# Altium integrated library Actel IGLOO nano.IntLib: 240 symbols (part 8 of 14)
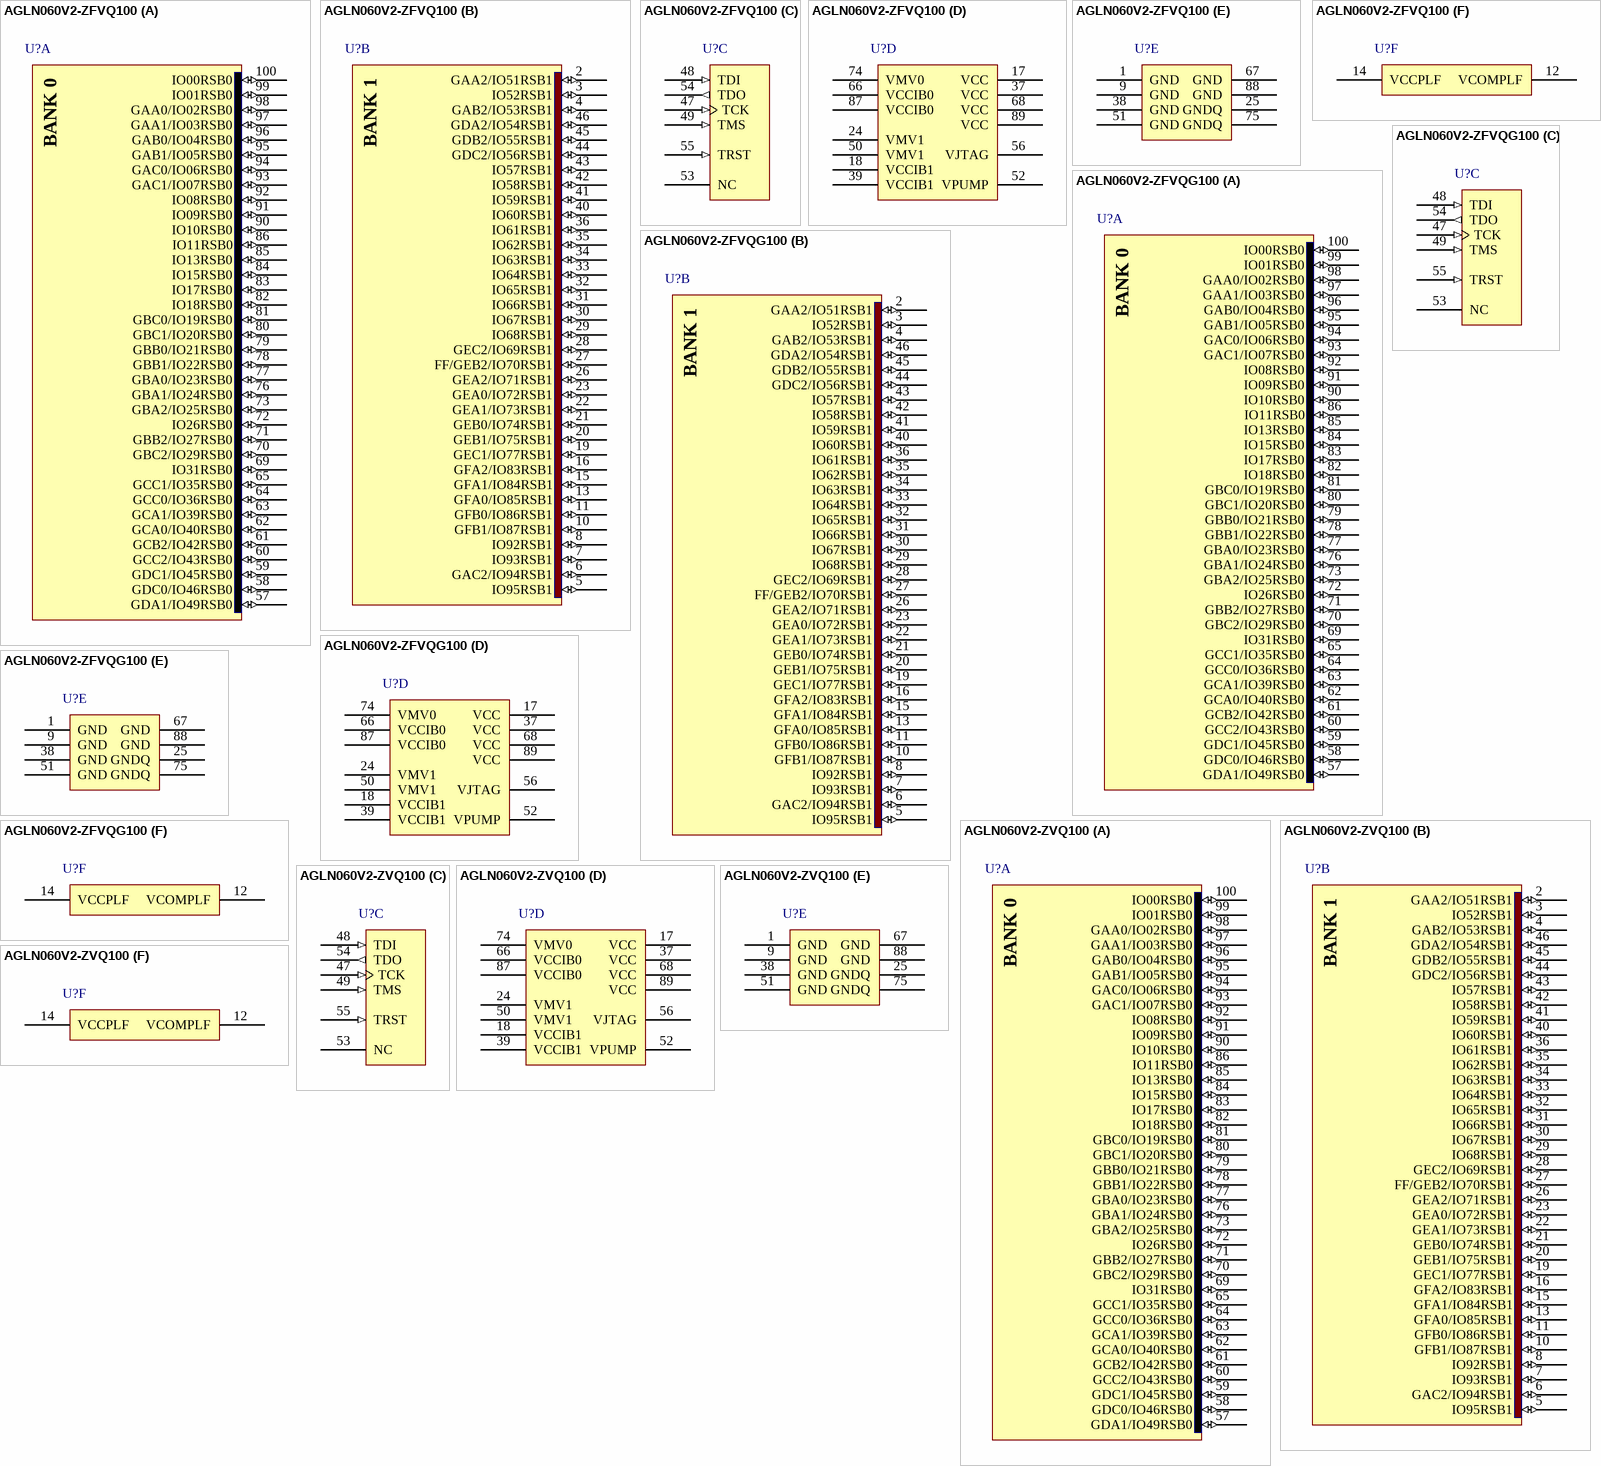
[diagram p70: symbols AGLN060V2-ZFVQ100 to AGLN060V2-ZVQ100]

## AGLN060V2-ZVQ100
designator U?
IGLOO nano Low-Power Flash 1.2 to 1.5V FPGA with Flash*Freeze, 71 User IOs, 60K System Gates, 1Kbit Flash ROM, Z feature grade, 100-Pin TQFP, Commercial Grade; Published: 29-May-2009; LatestRevisionDate: 26-Feb-2010; LatestRevisionNote: Updated to datasheet version 0.8 Jan-2010.; DatasheetVersion: v0.8, Jan-2010; PackageVersion: ver11.2, Nov-2009; PackageReference: VQ100; Publisher: Altium Limited; PackageDescription: 100-Pin Plastic Quad Flat Pack (VQ100); Code_JEDEC: MS-026-AED; ComponentLink1Description: IGLOO nano Datasheet; ComponentLink1URL: http://www.actel.com/documents/IGLOO_nano_DS.pdf; ComponentLink2Description: Package Mechanical Drawings; ComponentLink2URL: http://www.actel.com/documents/PckgMechDrwngs.pdf; ComponentLink3Description: IGLOO nano Documents; ComponentLink3URL: http://www.actel.com/products/igloonano/docs.aspx; ComponentLink4Description: Actel.com Home; ComponentLink4URL: http://www.actel.com/
footprint VQ100_N (Thin QFP, 100-Leads, Body 14x14mm, Pitch 0.5mm, IPC Medium Density)
footprint VQ100_L (Thin QFP, 100-Leads, Body 14x14mm, Pitch 0.5mm, IPC High Density)
footprint VQ100_M (Thin QFP, 100-Leads, Body 14x14mm, Pitch 0.5mm, IPC Low Density)
signal-integrity model AGLN060-VQ100 (IGLOO nano)
part A pins: 57 GDA1/IO49RSB0 (io), 58 GDC0/IO46RSB0 (io), 59 GDC1/IO45RSB0 (io), 60 GCC2/IO43RSB0 (io), 61 GCB2/IO42RSB0 (io), 62 GCA0/IO40RSB0 (io), 63 GCA1/IO39RSB0 (io), 64 GCC0/IO36RSB0 (io), 65 GCC1/IO35RSB0 (io), 69 IO31RSB0 (io), 70 GBC2/IO29RSB0 (io), 71 GBB2/IO27RSB0 (io), 72 IO26RSB0 (io), 73 GBA2/IO25RSB0 (io), 76 GBA1/IO24RSB0 (io), 77 GBA0/IO23RSB0 (io), 78 GBB1/IO22RSB0 (io), 79 GBB0/IO21RSB0 (io), 80 GBC1/IO20RSB0 (io), 81 GBC0/IO19RSB0 (io), 82 IO18RSB0 (io), 83 IO17RSB0 (io), 84 IO15RSB0 (io), 85 IO13RSB0 (io), 86 IO11RSB0 (io), 90 IO10RSB0 (io), 91 IO09RSB0 (io), 92 IO08RSB0 (io), 93 GAC1/IO07RSB0 (io), 94 GAC0/IO06RSB0 (io), 95 GAB1/IO05RSB0 (io), 96 GAB0/IO04RSB0 (io), 97 GAA1/IO03RSB0 (io), 98 GAA0/IO02RSB0 (io), 99 IO01RSB0 (io), 100 IO00RSB0 (io)
part B pins: 2 GAA2/IO51RSB1 (io), 3 IO52RSB1 (io), 4 GAB2/IO53RSB1 (io), 5 IO95RSB1 (io), 6 GAC2/IO94RSB1 (io), 7 IO93RSB1 (io), 8 IO92RSB1 (io), 10 GFB1/IO87RSB1 (io), 11 GFB0/IO86RSB1 (io), 13 GFA0/IO85RSB1 (io), 15 GFA1/IO84RSB1 (io), 16 GFA2/IO83RSB1 (io), 19 GEC1/IO77RSB1 (io), 20 GEB1/IO75RSB1 (io), 21 GEB0/IO74RSB1 (io), 22 GEA1/IO73RSB1 (io), 23 GEA0/IO72RSB1 (io), 26 GEA2/IO71RSB1 (io), 27 FF/GEB2/IO70RSB1 (io), 28 GEC2/IO69RSB1 (io), 29 IO68RSB1 (io), 30 IO67RSB1 (io), 31 IO66RSB1 (io), 32 IO65RSB1 (io), 33 IO64RSB1 (io), 34 IO63RSB1 (io), 35 IO62RSB1 (io), 36 IO61RSB1 (io), 40 IO60RSB1 (io), 41 IO59RSB1 (io), 42 IO58RSB1 (io), 43 IO57RSB1 (io), 44 GDC2/IO56RSB1 (io), 45 GDB2/IO55RSB1 (io), 46 GDA2/IO54RSB1 (io)
part C pins: 47 TCK (in), 48 TDI (in), 49 TMS (in), 53 NC, 54 TDO (out), 55 TRST (in)
part D pins: 17 VCC (power), 18 VCCIB1 (power), 24 VMV1 (power), 37 VCC (power), 39 VCCIB1 (power), 50 VMV1 (power), 52 VPUMP (power), 56 VJTAG (power), 66 VCCIB0 (power), 68 VCC (power), 74 VMV0 (power), 87 VCCIB0 (power), 89 VCC (power)
part E pins: 1 GND (power), 9 GND (power), 25 GNDQ (power), 38 GND (power), 51 GND (power), 67 GND (power), 75 GNDQ (power), 88 GND (power)
part F pins: 12 VCOMPLF (power), 14 VCCPLF (power)
part A text: BANK 0
part B text: BANK 1

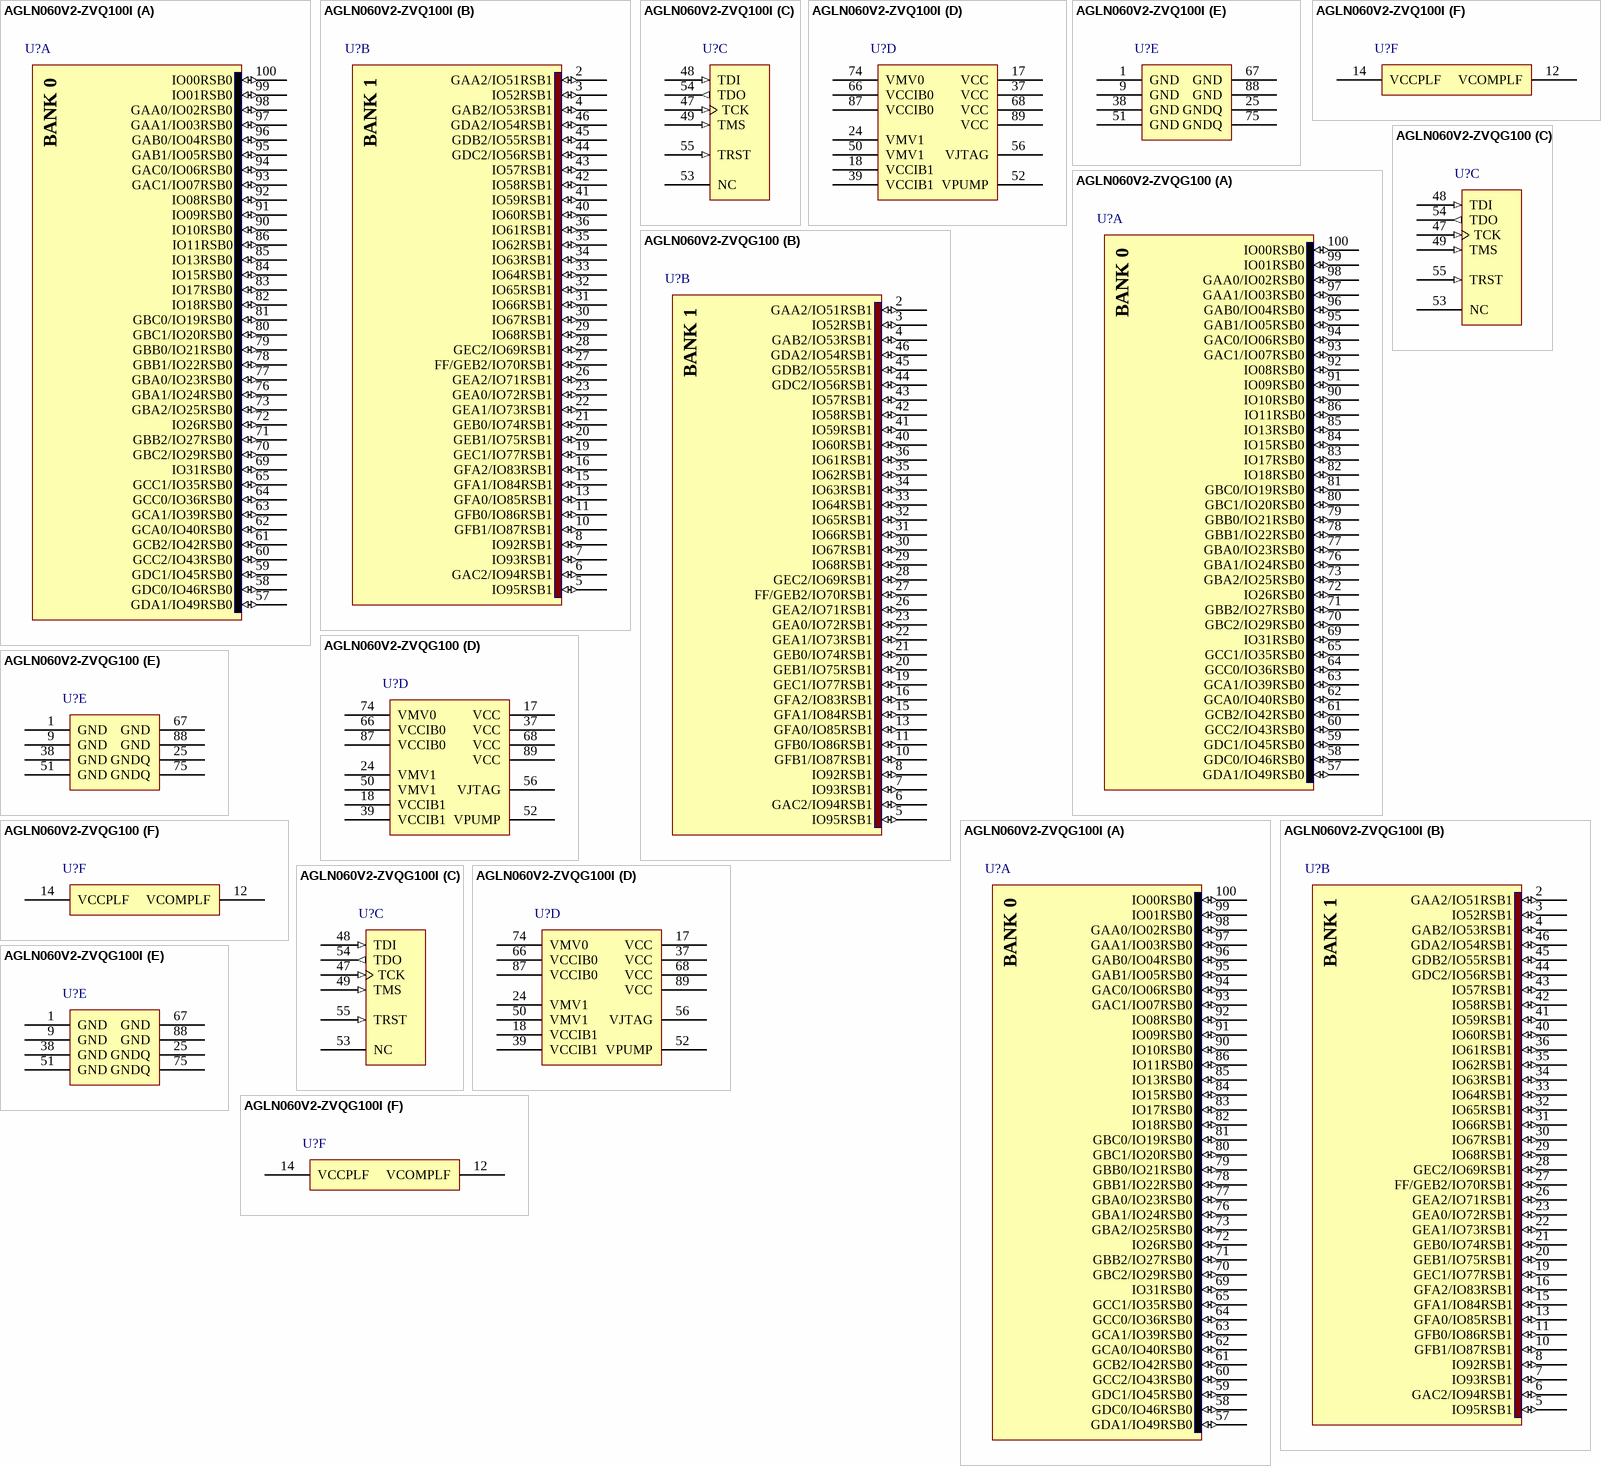
[diagram p32: symbols AGLN060V2-ZVQ100I to AGLN060V2-ZVQG100I]

## AGLN060V2-ZVQ100I
designator U?
IGLOO nano Low-Power Flash 1.2 to 1.5V FPGA with Flash*Freeze, 71 User IOs, 60K System Gates, 1Kbit Flash ROM, Z feature grade, 100-Pin TQFP, Industrial Grade; Published: 29-May-2009; LatestRevisionDate: 26-Feb-2010; LatestRevisionNote: Updated to datasheet version 0.8 Jan-2010.; DatasheetVersion: v0.8, Jan-2010; PackageVersion: ver11.2, Nov-2009; PackageReference: VQ100; Publisher: Altium Limited; PackageDescription: 100-Pin Plastic Quad Flat Pack (VQ100); Code_JEDEC: MS-026-AED; ComponentLink1Description: IGLOO nano Datasheet; ComponentLink1URL: http://www.actel.com/documents/IGLOO_nano_DS.pdf; ComponentLink2Description: Package Mechanical Drawings; ComponentLink2URL: http://www.actel.com/documents/PckgMechDrwngs.pdf; ComponentLink3Description: IGLOO nano Documents; ComponentLink3URL: http://www.actel.com/products/igloonano/docs.aspx; ComponentLink4Description: Actel.com Home; ComponentLink4URL: http://www.actel.com/
footprint VQ100_N (Thin QFP, 100-Leads, Body 14x14mm, Pitch 0.5mm, IPC Medium Density)
footprint VQ100_L (Thin QFP, 100-Leads, Body 14x14mm, Pitch 0.5mm, IPC High Density)
footprint VQ100_M (Thin QFP, 100-Leads, Body 14x14mm, Pitch 0.5mm, IPC Low Density)
signal-integrity model AGLN060-VQ100 (IGLOO nano)
part A pins: 57 GDA1/IO49RSB0 (io), 58 GDC0/IO46RSB0 (io), 59 GDC1/IO45RSB0 (io), 60 GCC2/IO43RSB0 (io), 61 GCB2/IO42RSB0 (io), 62 GCA0/IO40RSB0 (io), 63 GCA1/IO39RSB0 (io), 64 GCC0/IO36RSB0 (io), 65 GCC1/IO35RSB0 (io), 69 IO31RSB0 (io), 70 GBC2/IO29RSB0 (io), 71 GBB2/IO27RSB0 (io), 72 IO26RSB0 (io), 73 GBA2/IO25RSB0 (io), 76 GBA1/IO24RSB0 (io), 77 GBA0/IO23RSB0 (io), 78 GBB1/IO22RSB0 (io), 79 GBB0/IO21RSB0 (io), 80 GBC1/IO20RSB0 (io), 81 GBC0/IO19RSB0 (io), 82 IO18RSB0 (io), 83 IO17RSB0 (io), 84 IO15RSB0 (io), 85 IO13RSB0 (io), 86 IO11RSB0 (io), 90 IO10RSB0 (io), 91 IO09RSB0 (io), 92 IO08RSB0 (io), 93 GAC1/IO07RSB0 (io), 94 GAC0/IO06RSB0 (io), 95 GAB1/IO05RSB0 (io), 96 GAB0/IO04RSB0 (io), 97 GAA1/IO03RSB0 (io), 98 GAA0/IO02RSB0 (io), 99 IO01RSB0 (io), 100 IO00RSB0 (io)
part B pins: 2 GAA2/IO51RSB1 (io), 3 IO52RSB1 (io), 4 GAB2/IO53RSB1 (io), 5 IO95RSB1 (io), 6 GAC2/IO94RSB1 (io), 7 IO93RSB1 (io), 8 IO92RSB1 (io), 10 GFB1/IO87RSB1 (io), 11 GFB0/IO86RSB1 (io), 13 GFA0/IO85RSB1 (io), 15 GFA1/IO84RSB1 (io), 16 GFA2/IO83RSB1 (io), 19 GEC1/IO77RSB1 (io), 20 GEB1/IO75RSB1 (io), 21 GEB0/IO74RSB1 (io), 22 GEA1/IO73RSB1 (io), 23 GEA0/IO72RSB1 (io), 26 GEA2/IO71RSB1 (io), 27 FF/GEB2/IO70RSB1 (io), 28 GEC2/IO69RSB1 (io), 29 IO68RSB1 (io), 30 IO67RSB1 (io), 31 IO66RSB1 (io), 32 IO65RSB1 (io), 33 IO64RSB1 (io), 34 IO63RSB1 (io), 35 IO62RSB1 (io), 36 IO61RSB1 (io), 40 IO60RSB1 (io), 41 IO59RSB1 (io), 42 IO58RSB1 (io), 43 IO57RSB1 (io), 44 GDC2/IO56RSB1 (io), 45 GDB2/IO55RSB1 (io), 46 GDA2/IO54RSB1 (io)
part C pins: 47 TCK (in), 48 TDI (in), 49 TMS (in), 53 NC, 54 TDO (out), 55 TRST (in)
part D pins: 17 VCC (power), 18 VCCIB1 (power), 24 VMV1 (power), 37 VCC (power), 39 VCCIB1 (power), 50 VMV1 (power), 52 VPUMP (power), 56 VJTAG (power), 66 VCCIB0 (power), 68 VCC (power), 74 VMV0 (power), 87 VCCIB0 (power), 89 VCC (power)
part E pins: 1 GND (power), 9 GND (power), 25 GNDQ (power), 38 GND (power), 51 GND (power), 67 GND (power), 75 GNDQ (power), 88 GND (power)
part F pins: 12 VCOMPLF (power), 14 VCCPLF (power)
part A text: BANK 0
part B text: BANK 1

## AGLN060V2-ZVQG100
designator U?
IGLOO nano Low-Power Flash 1.2 to 1.5V FPGA with Flash*Freeze, 71 User IOs, 60K System Gates, 1Kbit Flash ROM, Z feature grade, 100-Pin TQFP, Commercial Grade, Pb-Free; Published: 29-May-2009; LatestRevisionDate: 26-Feb-2010; LatestRevisionNote: Updated to datasheet version 0.8 Jan-2010.; DatasheetVersion: v0.8, Jan-2010; PackageVersion: ver11.2, Nov-2009; PackageReference: VQ100; Publisher: Altium Limited; PackageDescription: 100-Pin Plastic Quad Flat Pack (VQ100); Code_JEDEC: MS-026-AED; ComponentLink1Description: IGLOO nano Datasheet; ComponentLink1URL: http://www.actel.com/documents/IGLOO_nano_DS.pdf; ComponentLink2Description: Package Mechanical Drawings; ComponentLink2URL: http://www.actel.com/documents/PckgMechDrwngs.pdf; ComponentLink3Description: IGLOO nano Documents; ComponentLink3URL: http://www.actel.com/products/igloonano/docs.aspx; ComponentLink4Description: Actel.com Home; ComponentLink4URL: http://www.actel.com/
footprint VQ100_N (Thin QFP, 100-Leads, Body 14x14mm, Pitch 0.5mm, IPC Medium Density)
footprint VQ100_L (Thin QFP, 100-Leads, Body 14x14mm, Pitch 0.5mm, IPC High Density)
footprint VQ100_M (Thin QFP, 100-Leads, Body 14x14mm, Pitch 0.5mm, IPC Low Density)
signal-integrity model AGLN060-VQ100 (IGLOO nano)
part A pins: 57 GDA1/IO49RSB0 (io), 58 GDC0/IO46RSB0 (io), 59 GDC1/IO45RSB0 (io), 60 GCC2/IO43RSB0 (io), 61 GCB2/IO42RSB0 (io), 62 GCA0/IO40RSB0 (io), 63 GCA1/IO39RSB0 (io), 64 GCC0/IO36RSB0 (io), 65 GCC1/IO35RSB0 (io), 69 IO31RSB0 (io), 70 GBC2/IO29RSB0 (io), 71 GBB2/IO27RSB0 (io), 72 IO26RSB0 (io), 73 GBA2/IO25RSB0 (io), 76 GBA1/IO24RSB0 (io), 77 GBA0/IO23RSB0 (io), 78 GBB1/IO22RSB0 (io), 79 GBB0/IO21RSB0 (io), 80 GBC1/IO20RSB0 (io), 81 GBC0/IO19RSB0 (io), 82 IO18RSB0 (io), 83 IO17RSB0 (io), 84 IO15RSB0 (io), 85 IO13RSB0 (io), 86 IO11RSB0 (io), 90 IO10RSB0 (io), 91 IO09RSB0 (io), 92 IO08RSB0 (io), 93 GAC1/IO07RSB0 (io), 94 GAC0/IO06RSB0 (io), 95 GAB1/IO05RSB0 (io), 96 GAB0/IO04RSB0 (io), 97 GAA1/IO03RSB0 (io), 98 GAA0/IO02RSB0 (io), 99 IO01RSB0 (io), 100 IO00RSB0 (io)
part B pins: 2 GAA2/IO51RSB1 (io), 3 IO52RSB1 (io), 4 GAB2/IO53RSB1 (io), 5 IO95RSB1 (io), 6 GAC2/IO94RSB1 (io), 7 IO93RSB1 (io), 8 IO92RSB1 (io), 10 GFB1/IO87RSB1 (io), 11 GFB0/IO86RSB1 (io), 13 GFA0/IO85RSB1 (io), 15 GFA1/IO84RSB1 (io), 16 GFA2/IO83RSB1 (io), 19 GEC1/IO77RSB1 (io), 20 GEB1/IO75RSB1 (io), 21 GEB0/IO74RSB1 (io), 22 GEA1/IO73RSB1 (io), 23 GEA0/IO72RSB1 (io), 26 GEA2/IO71RSB1 (io), 27 FF/GEB2/IO70RSB1 (io), 28 GEC2/IO69RSB1 (io), 29 IO68RSB1 (io), 30 IO67RSB1 (io), 31 IO66RSB1 (io), 32 IO65RSB1 (io), 33 IO64RSB1 (io), 34 IO63RSB1 (io), 35 IO62RSB1 (io), 36 IO61RSB1 (io), 40 IO60RSB1 (io), 41 IO59RSB1 (io), 42 IO58RSB1 (io), 43 IO57RSB1 (io), 44 GDC2/IO56RSB1 (io), 45 GDB2/IO55RSB1 (io), 46 GDA2/IO54RSB1 (io)
part C pins: 47 TCK (in), 48 TDI (in), 49 TMS (in), 53 NC, 54 TDO (out), 55 TRST (in)
part D pins: 17 VCC (power), 18 VCCIB1 (power), 24 VMV1 (power), 37 VCC (power), 39 VCCIB1 (power), 50 VMV1 (power), 52 VPUMP (power), 56 VJTAG (power), 66 VCCIB0 (power), 68 VCC (power), 74 VMV0 (power), 87 VCCIB0 (power), 89 VCC (power)
part E pins: 1 GND (power), 9 GND (power), 25 GNDQ (power), 38 GND (power), 51 GND (power), 67 GND (power), 75 GNDQ (power), 88 GND (power)
part F pins: 12 VCOMPLF (power), 14 VCCPLF (power)
part A text: BANK 0
part B text: BANK 1

## AGLN060V2-ZVQG100I
designator U?
IGLOO nano Low-Power Flash 1.2 to 1.5V FPGA with Flash*Freeze, 71 User IOs, 60K System Gates, 1Kbit Flash ROM, Z feature grade, 100-Pin TQFP, Industrial Grade, Pb-Free; Published: 29-May-2009; LatestRevisionDate: 26-Feb-2010; LatestRevisionNote: Updated to datasheet version 0.8 Jan-2010.; DatasheetVersion: v0.8, Jan-2010; PackageVersion: ver11.2, Nov-2009; PackageReference: VQ100; Publisher: Altium Limited; PackageDescription: 100-Pin Plastic Quad Flat Pack (VQ100); Code_JEDEC: MS-026-AED; ComponentLink1Description: IGLOO nano Datasheet; ComponentLink1URL: http://www.actel.com/documents/IGLOO_nano_DS.pdf; ComponentLink2Description: Package Mechanical Drawings; ComponentLink2URL: http://www.actel.com/documents/PckgMechDrwngs.pdf; ComponentLink3Description: IGLOO nano Documents; ComponentLink3URL: http://www.actel.com/products/igloonano/docs.aspx; ComponentLink4Description: Actel.com Home; ComponentLink4URL: http://www.actel.com/
footprint VQ100_N (Thin QFP, 100-Leads, Body 14x14mm, Pitch 0.5mm, IPC Medium Density)
footprint VQ100_L (Thin QFP, 100-Leads, Body 14x14mm, Pitch 0.5mm, IPC High Density)
footprint VQ100_M (Thin QFP, 100-Leads, Body 14x14mm, Pitch 0.5mm, IPC Low Density)
signal-integrity model AGLN060-VQ100 (IGLOO nano)
part A pins: 57 GDA1/IO49RSB0 (io), 58 GDC0/IO46RSB0 (io), 59 GDC1/IO45RSB0 (io), 60 GCC2/IO43RSB0 (io), 61 GCB2/IO42RSB0 (io), 62 GCA0/IO40RSB0 (io), 63 GCA1/IO39RSB0 (io), 64 GCC0/IO36RSB0 (io), 65 GCC1/IO35RSB0 (io), 69 IO31RSB0 (io), 70 GBC2/IO29RSB0 (io), 71 GBB2/IO27RSB0 (io), 72 IO26RSB0 (io), 73 GBA2/IO25RSB0 (io), 76 GBA1/IO24RSB0 (io), 77 GBA0/IO23RSB0 (io), 78 GBB1/IO22RSB0 (io), 79 GBB0/IO21RSB0 (io), 80 GBC1/IO20RSB0 (io), 81 GBC0/IO19RSB0 (io), 82 IO18RSB0 (io), 83 IO17RSB0 (io), 84 IO15RSB0 (io), 85 IO13RSB0 (io), 86 IO11RSB0 (io), 90 IO10RSB0 (io), 91 IO09RSB0 (io), 92 IO08RSB0 (io), 93 GAC1/IO07RSB0 (io), 94 GAC0/IO06RSB0 (io), 95 GAB1/IO05RSB0 (io), 96 GAB0/IO04RSB0 (io), 97 GAA1/IO03RSB0 (io), 98 GAA0/IO02RSB0 (io), 99 IO01RSB0 (io), 100 IO00RSB0 (io)
part B pins: 2 GAA2/IO51RSB1 (io), 3 IO52RSB1 (io), 4 GAB2/IO53RSB1 (io), 5 IO95RSB1 (io), 6 GAC2/IO94RSB1 (io), 7 IO93RSB1 (io), 8 IO92RSB1 (io), 10 GFB1/IO87RSB1 (io), 11 GFB0/IO86RSB1 (io), 13 GFA0/IO85RSB1 (io), 15 GFA1/IO84RSB1 (io), 16 GFA2/IO83RSB1 (io), 19 GEC1/IO77RSB1 (io), 20 GEB1/IO75RSB1 (io), 21 GEB0/IO74RSB1 (io), 22 GEA1/IO73RSB1 (io), 23 GEA0/IO72RSB1 (io), 26 GEA2/IO71RSB1 (io), 27 FF/GEB2/IO70RSB1 (io), 28 GEC2/IO69RSB1 (io), 29 IO68RSB1 (io), 30 IO67RSB1 (io), 31 IO66RSB1 (io), 32 IO65RSB1 (io), 33 IO64RSB1 (io), 34 IO63RSB1 (io), 35 IO62RSB1 (io), 36 IO61RSB1 (io), 40 IO60RSB1 (io), 41 IO59RSB1 (io), 42 IO58RSB1 (io), 43 IO57RSB1 (io), 44 GDC2/IO56RSB1 (io), 45 GDB2/IO55RSB1 (io), 46 GDA2/IO54RSB1 (io)
part C pins: 47 TCK (in), 48 TDI (in), 49 TMS (in), 53 NC, 54 TDO (out), 55 TRST (in)
part D pins: 17 VCC (power), 18 VCCIB1 (power), 24 VMV1 (power), 37 VCC (power), 39 VCCIB1 (power), 50 VMV1 (power), 52 VPUMP (power), 56 VJTAG (power), 66 VCCIB0 (power), 68 VCC (power), 74 VMV0 (power), 87 VCCIB0 (power), 89 VCC (power)
part E pins: 1 GND (power), 9 GND (power), 25 GNDQ (power), 38 GND (power), 51 GND (power), 67 GND (power), 75 GNDQ (power), 88 GND (power)
part F pins: 12 VCOMPLF (power), 14 VCCPLF (power)
part A text: BANK 0
part B text: BANK 1

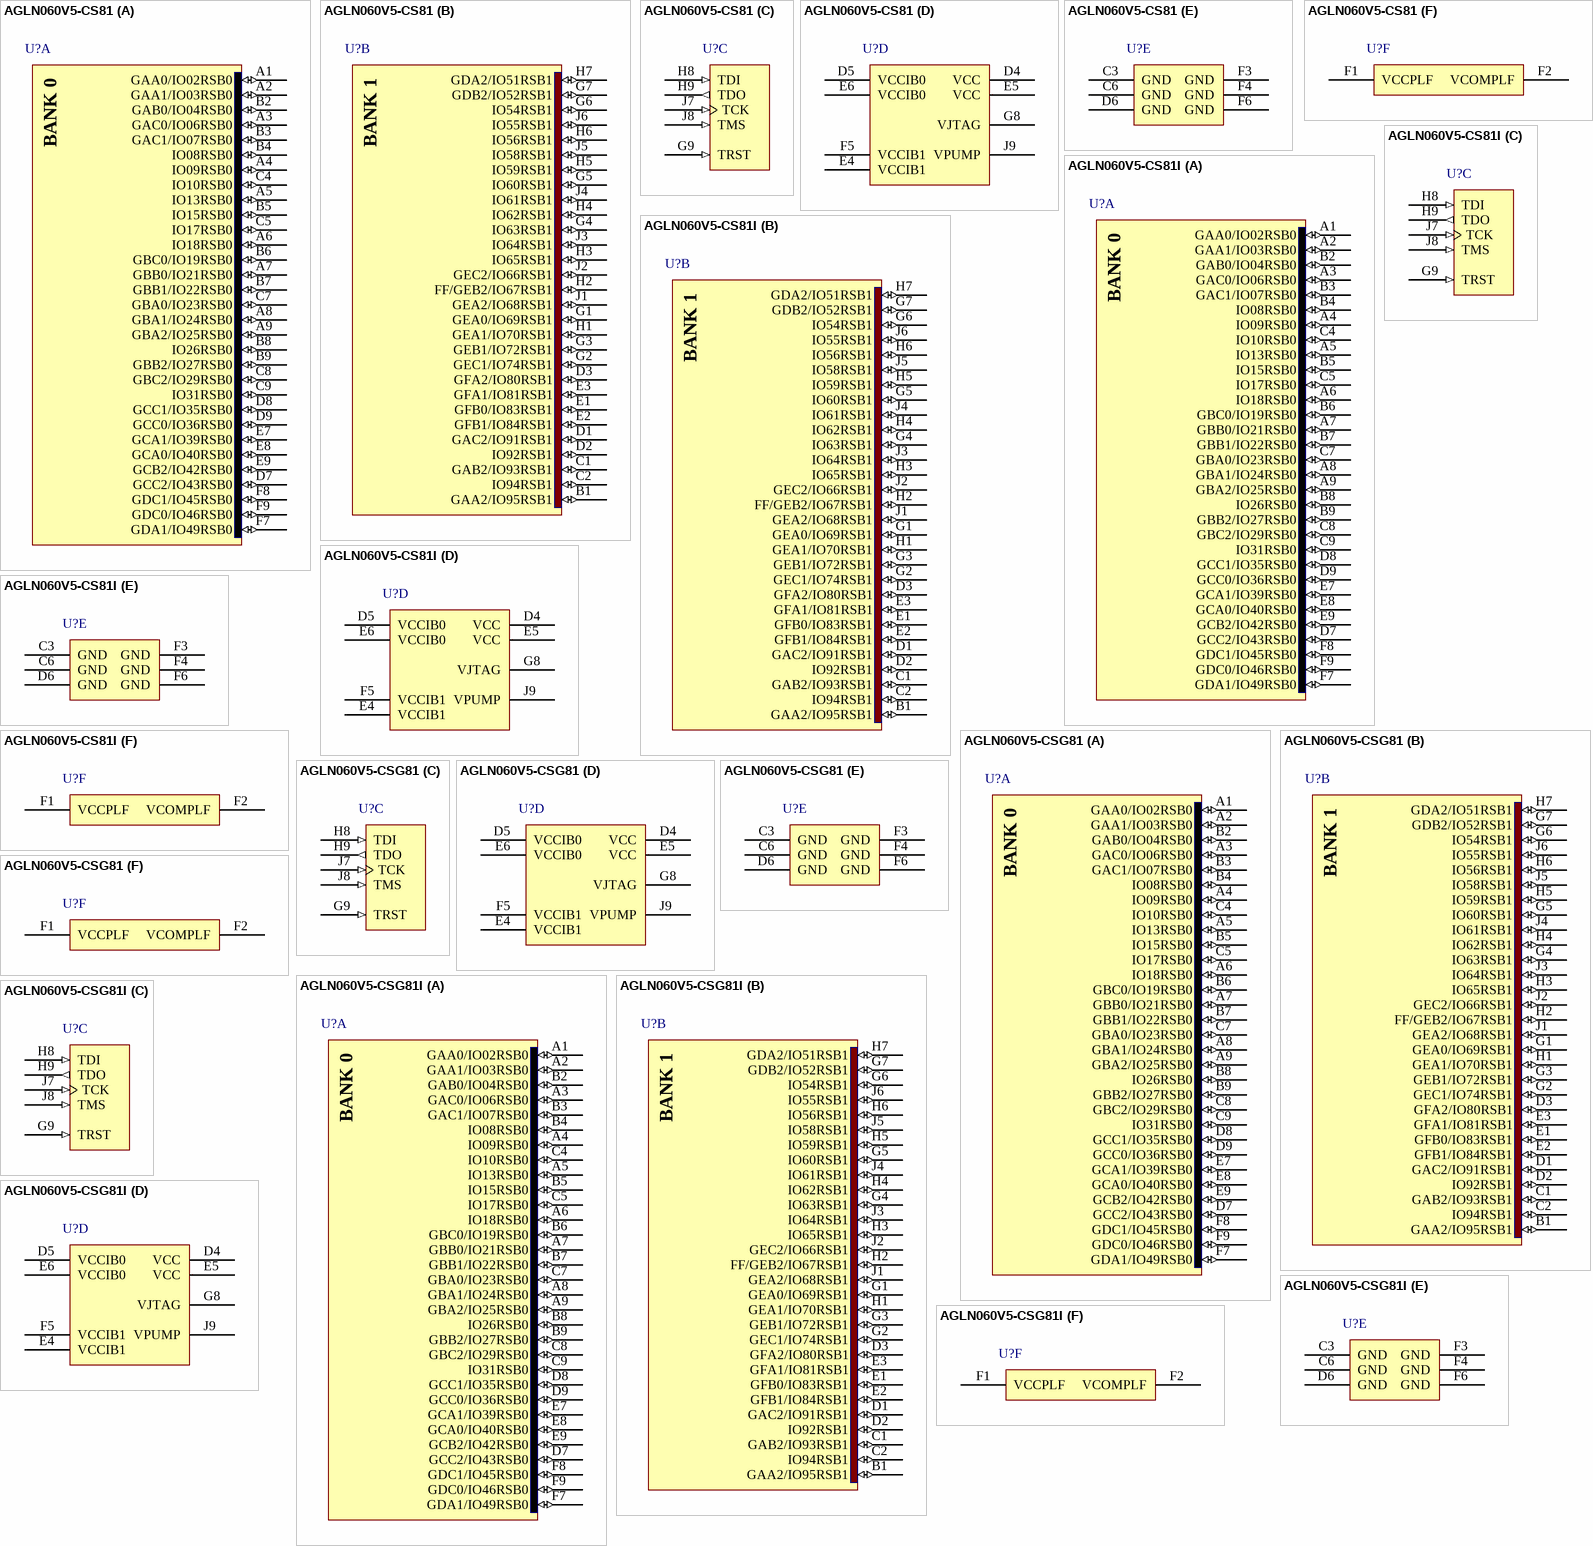
[diagram p33: symbols AGLN060V5-CS81 to AGLN060V5-CSG81I]

## AGLN060V5-CS81
designator U?
IGLOO nano Low-Power Flash 1.5V FPGA with Flash*Freeze, 60 User IOs, 60K System Gates, 1Kbit Flash ROM, 81-Pin CSP, Commercial Grade; Published: 26-Feb-2010; DatasheetVersion: v0.8, Jan-2010; PackageVersion: ver11.2, Nov-2009; PackageReference: CS81; Publisher: Altium Limited; PackageDescription: 81-Ball Chip Scale Ball Grid Array 0.5 mm Pitch (CS81); Code_JEDEC: MO-195-AB; ComponentLink1Description: IGLOO nano Datasheet; ComponentLink1URL: http://www.actel.com/documents/IGLOO_nano_DS.pdf; ComponentLink2Description: Package Mechanical Drawings; ComponentLink2URL: http://www.actel.com/documents/PckgMechDrwngs.pdf; ComponentLink3Description: IGLOO nano Documents; ComponentLink3URL: http://www.actel.com/products/igloonano/docs.aspx; ComponentLink4Description: Actel.com Home; ComponentLink4URL: http://www.actel.com/
footprint CS81 (BGA, 81-Leads, Body 5x5mm, Pitch 0.5mm)
signal-integrity model AGLN060-CS81 (IGLOO nano)
part A pins: A1 GAA0/IO02RSB0 (io), A2 GAA1/IO03RSB0 (io), A3 GAC0/IO06RSB0 (io), A4 IO09RSB0 (io), A5 IO13RSB0 (io), A6 IO18RSB0 (io), A7 GBB0/IO21RSB0 (io), A8 GBA1/IO24RSB0 (io), A9 GBA2/IO25RSB0 (io), B2 GAB0/IO04RSB0 (io), B3 GAC1/IO07RSB0 (io), B4 IO08RSB0 (io), B5 IO15RSB0 (io), B6 GBC0/IO19RSB0 (io), B7 GBB1/IO22RSB0 (io), B8 IO26RSB0 (io), B9 GBB2/IO27RSB0 (io), C4 IO10RSB0 (io), C5 IO17RSB0 (io), C7 GBA0/IO23RSB0 (io), C8 GBC2/IO29RSB0 (io), C9 IO31RSB0 (io), D7 GCC2/IO43RSB0 (io), D8 GCC1/IO35RSB0 (io), D9 GCC0/IO36RSB0 (io), E7 GCA1/IO39RSB0 (io), E8 GCA0/IO40RSB0 (io), E9 GCB2/IO42RSB0 (io), F7 GDA1/IO49RSB0 (io), F8 GDC1/IO45RSB0 (io), F9 GDC0/IO46RSB0 (io)
part B pins: B1 GAA2/IO95RSB1 (io), C1 GAB2/IO93RSB1 (io), C2 IO94RSB1 (io), D1 GAC2/IO91RSB1 (io), D2 IO92RSB1 (io), D3 GFA2/IO80RSB1 (io), E1 GFB0/IO83RSB1 (io), E2 GFB1/IO84RSB1 (io), E3 GFA1/IO81RSB1 (io), G1 GEA0/IO69RSB1 (io), G2 GEC1/IO74RSB1 (io), G3 GEB1/IO72RSB1 (io), G4 IO63RSB1 (io), G5 IO60RSB1 (io), G6 IO54RSB1 (io), G7 GDB2/IO52RSB1 (io), H1 GEA1/IO70RSB1 (io), H2 FF/GEB2/IO67RSB1 (io), H3 IO65RSB1 (io), H4 IO62RSB1 (io), H5 IO59RSB1 (io), H6 IO56RSB1 (io), H7 GDA2/IO51RSB1 (io), J1 GEA2/IO68RSB1 (io), J2 GEC2/IO66RSB1 (io), J3 IO64RSB1 (io), J4 IO61RSB1 (io), J5 IO58RSB1 (io), J6 IO55RSB1 (io)
part C pins: G9 TRST (in), H8 TDI (in), H9 TDO (out), J7 TCK (in), J8 TMS (in)
part D pins: D4 VCC (power), D5 VCCIB0 (power), E4 VCCIB1 (power), E5 VCC (power), E6 VCCIB0 (power), F5 VCCIB1 (power), G8 VJTAG (power), J9 VPUMP (power)
part E pins: C3 GND (power), C6 GND (power), D6 GND (power), F3 GND (power), F4 GND (power), F6 GND (power)
part F pins: F1 VCCPLF (power), F2 VCOMPLF (power)
part A text: BANK 0
part B text: BANK 1

## AGLN060V5-CS81I
designator U?
IGLOO nano Low-Power Flash 1.5V FPGA with Flash*Freeze, 60 User IOs, 60K System Gates, 1Kbit Flash ROM, 81-Pin CSP, Industrial Grade; Published: 26-Feb-2010; DatasheetVersion: v0.8, Jan-2010; PackageVersion: ver11.2, Nov-2009; PackageReference: CS81; Publisher: Altium Limited; PackageDescription: 81-Ball Chip Scale Ball Grid Array 0.5 mm Pitch (CS81); Code_JEDEC: MO-195-AB; ComponentLink1Description: IGLOO nano Datasheet; ComponentLink1URL: http://www.actel.com/documents/IGLOO_nano_DS.pdf; ComponentLink2Description: Package Mechanical Drawings; ComponentLink2URL: http://www.actel.com/documents/PckgMechDrwngs.pdf; ComponentLink3Description: IGLOO nano Documents; ComponentLink3URL: http://www.actel.com/products/igloonano/docs.aspx; ComponentLink4Description: Actel.com Home; ComponentLink4URL: http://www.actel.com/
footprint CS81 (BGA, 81-Leads, Body 5x5mm, Pitch 0.5mm)
signal-integrity model AGLN060-CS81 (IGLOO nano)
part A pins: A1 GAA0/IO02RSB0 (io), A2 GAA1/IO03RSB0 (io), A3 GAC0/IO06RSB0 (io), A4 IO09RSB0 (io), A5 IO13RSB0 (io), A6 IO18RSB0 (io), A7 GBB0/IO21RSB0 (io), A8 GBA1/IO24RSB0 (io), A9 GBA2/IO25RSB0 (io), B2 GAB0/IO04RSB0 (io), B3 GAC1/IO07RSB0 (io), B4 IO08RSB0 (io), B5 IO15RSB0 (io), B6 GBC0/IO19RSB0 (io), B7 GBB1/IO22RSB0 (io), B8 IO26RSB0 (io), B9 GBB2/IO27RSB0 (io), C4 IO10RSB0 (io), C5 IO17RSB0 (io), C7 GBA0/IO23RSB0 (io), C8 GBC2/IO29RSB0 (io), C9 IO31RSB0 (io), D7 GCC2/IO43RSB0 (io), D8 GCC1/IO35RSB0 (io), D9 GCC0/IO36RSB0 (io), E7 GCA1/IO39RSB0 (io), E8 GCA0/IO40RSB0 (io), E9 GCB2/IO42RSB0 (io), F7 GDA1/IO49RSB0 (io), F8 GDC1/IO45RSB0 (io), F9 GDC0/IO46RSB0 (io)
part B pins: B1 GAA2/IO95RSB1 (io), C1 GAB2/IO93RSB1 (io), C2 IO94RSB1 (io), D1 GAC2/IO91RSB1 (io), D2 IO92RSB1 (io), D3 GFA2/IO80RSB1 (io), E1 GFB0/IO83RSB1 (io), E2 GFB1/IO84RSB1 (io), E3 GFA1/IO81RSB1 (io), G1 GEA0/IO69RSB1 (io), G2 GEC1/IO74RSB1 (io), G3 GEB1/IO72RSB1 (io), G4 IO63RSB1 (io), G5 IO60RSB1 (io), G6 IO54RSB1 (io), G7 GDB2/IO52RSB1 (io), H1 GEA1/IO70RSB1 (io), H2 FF/GEB2/IO67RSB1 (io), H3 IO65RSB1 (io), H4 IO62RSB1 (io), H5 IO59RSB1 (io), H6 IO56RSB1 (io), H7 GDA2/IO51RSB1 (io), J1 GEA2/IO68RSB1 (io), J2 GEC2/IO66RSB1 (io), J3 IO64RSB1 (io), J4 IO61RSB1 (io), J5 IO58RSB1 (io), J6 IO55RSB1 (io)
part C pins: G9 TRST (in), H8 TDI (in), H9 TDO (out), J7 TCK (in), J8 TMS (in)
part D pins: D4 VCC (power), D5 VCCIB0 (power), E4 VCCIB1 (power), E5 VCC (power), E6 VCCIB0 (power), F5 VCCIB1 (power), G8 VJTAG (power), J9 VPUMP (power)
part E pins: C3 GND (power), C6 GND (power), D6 GND (power), F3 GND (power), F4 GND (power), F6 GND (power)
part F pins: F1 VCCPLF (power), F2 VCOMPLF (power)
part A text: BANK 0
part B text: BANK 1

## AGLN060V5-CSG81
designator U?
IGLOO nano Low-Power Flash 1.5V FPGA with Flash*Freeze, 60 User IOs, 60K System Gates, 1Kbit Flash ROM, 81-Pin CSP, Commercial Grade, Pb-Free; Published: 26-Feb-2010; DatasheetVersion: v0.8, Jan-2010; PackageVersion: ver11.2, Nov-2009; PackageReference: CS81; Publisher: Altium Limited; PackageDescription: 81-Ball Chip Scale Ball Grid Array 0.5 mm Pitch (CS81); Code_JEDEC: MO-195-AB; ComponentLink1Description: IGLOO nano Datasheet; ComponentLink1URL: http://www.actel.com/documents/IGLOO_nano_DS.pdf; ComponentLink2Description: Package Mechanical Drawings; ComponentLink2URL: http://www.actel.com/documents/PckgMechDrwngs.pdf; ComponentLink3Description: IGLOO nano Documents; ComponentLink3URL: http://www.actel.com/products/igloonano/docs.aspx; ComponentLink4Description: Actel.com Home; ComponentLink4URL: http://www.actel.com/
footprint CS81 (BGA, 81-Leads, Body 5x5mm, Pitch 0.5mm)
signal-integrity model AGLN060-CS81 (IGLOO nano)
part A pins: A1 GAA0/IO02RSB0 (io), A2 GAA1/IO03RSB0 (io), A3 GAC0/IO06RSB0 (io), A4 IO09RSB0 (io), A5 IO13RSB0 (io), A6 IO18RSB0 (io), A7 GBB0/IO21RSB0 (io), A8 GBA1/IO24RSB0 (io), A9 GBA2/IO25RSB0 (io), B2 GAB0/IO04RSB0 (io), B3 GAC1/IO07RSB0 (io), B4 IO08RSB0 (io), B5 IO15RSB0 (io), B6 GBC0/IO19RSB0 (io), B7 GBB1/IO22RSB0 (io), B8 IO26RSB0 (io), B9 GBB2/IO27RSB0 (io), C4 IO10RSB0 (io), C5 IO17RSB0 (io), C7 GBA0/IO23RSB0 (io), C8 GBC2/IO29RSB0 (io), C9 IO31RSB0 (io), D7 GCC2/IO43RSB0 (io), D8 GCC1/IO35RSB0 (io), D9 GCC0/IO36RSB0 (io), E7 GCA1/IO39RSB0 (io), E8 GCA0/IO40RSB0 (io), E9 GCB2/IO42RSB0 (io), F7 GDA1/IO49RSB0 (io), F8 GDC1/IO45RSB0 (io), F9 GDC0/IO46RSB0 (io)
part B pins: B1 GAA2/IO95RSB1 (io), C1 GAB2/IO93RSB1 (io), C2 IO94RSB1 (io), D1 GAC2/IO91RSB1 (io), D2 IO92RSB1 (io), D3 GFA2/IO80RSB1 (io), E1 GFB0/IO83RSB1 (io), E2 GFB1/IO84RSB1 (io), E3 GFA1/IO81RSB1 (io), G1 GEA0/IO69RSB1 (io), G2 GEC1/IO74RSB1 (io), G3 GEB1/IO72RSB1 (io), G4 IO63RSB1 (io), G5 IO60RSB1 (io), G6 IO54RSB1 (io), G7 GDB2/IO52RSB1 (io), H1 GEA1/IO70RSB1 (io), H2 FF/GEB2/IO67RSB1 (io), H3 IO65RSB1 (io), H4 IO62RSB1 (io), H5 IO59RSB1 (io), H6 IO56RSB1 (io), H7 GDA2/IO51RSB1 (io), J1 GEA2/IO68RSB1 (io), J2 GEC2/IO66RSB1 (io), J3 IO64RSB1 (io), J4 IO61RSB1 (io), J5 IO58RSB1 (io), J6 IO55RSB1 (io)
part C pins: G9 TRST (in), H8 TDI (in), H9 TDO (out), J7 TCK (in), J8 TMS (in)
part D pins: D4 VCC (power), D5 VCCIB0 (power), E4 VCCIB1 (power), E5 VCC (power), E6 VCCIB0 (power), F5 VCCIB1 (power), G8 VJTAG (power), J9 VPUMP (power)
part E pins: C3 GND (power), C6 GND (power), D6 GND (power), F3 GND (power), F4 GND (power), F6 GND (power)
part F pins: F1 VCCPLF (power), F2 VCOMPLF (power)
part A text: BANK 0
part B text: BANK 1

## AGLN060V5-CSG81I
designator U?
IGLOO nano Low-Power Flash 1.5V FPGA with Flash*Freeze, 60 User IOs, 60K System Gates, 1Kbit Flash ROM, 81-Pin CSP, Industrial Grade, Pb-Free; Published: 26-Feb-2010; DatasheetVersion: v0.8, Jan-2010; PackageVersion: ver11.2, Nov-2009; PackageReference: CS81; Publisher: Altium Limited; PackageDescription: 81-Ball Chip Scale Ball Grid Array 0.5 mm Pitch (CS81); Code_JEDEC: MO-195-AB; ComponentLink1Description: IGLOO nano Datasheet; ComponentLink1URL: http://www.actel.com/documents/IGLOO_nano_DS.pdf; ComponentLink2Description: Package Mechanical Drawings; ComponentLink2URL: http://www.actel.com/documents/PckgMechDrwngs.pdf; ComponentLink3Description: IGLOO nano Documents; ComponentLink3URL: http://www.actel.com/products/igloonano/docs.aspx; ComponentLink4Description: Actel.com Home; ComponentLink4URL: http://www.actel.com/
footprint CS81 (BGA, 81-Leads, Body 5x5mm, Pitch 0.5mm)
signal-integrity model AGLN060-CS81 (IGLOO nano)
part A pins: A1 GAA0/IO02RSB0 (io), A2 GAA1/IO03RSB0 (io), A3 GAC0/IO06RSB0 (io), A4 IO09RSB0 (io), A5 IO13RSB0 (io), A6 IO18RSB0 (io), A7 GBB0/IO21RSB0 (io), A8 GBA1/IO24RSB0 (io), A9 GBA2/IO25RSB0 (io), B2 GAB0/IO04RSB0 (io), B3 GAC1/IO07RSB0 (io), B4 IO08RSB0 (io), B5 IO15RSB0 (io), B6 GBC0/IO19RSB0 (io), B7 GBB1/IO22RSB0 (io), B8 IO26RSB0 (io), B9 GBB2/IO27RSB0 (io), C4 IO10RSB0 (io), C5 IO17RSB0 (io), C7 GBA0/IO23RSB0 (io), C8 GBC2/IO29RSB0 (io), C9 IO31RSB0 (io), D7 GCC2/IO43RSB0 (io), D8 GCC1/IO35RSB0 (io), D9 GCC0/IO36RSB0 (io), E7 GCA1/IO39RSB0 (io), E8 GCA0/IO40RSB0 (io), E9 GCB2/IO42RSB0 (io), F7 GDA1/IO49RSB0 (io), F8 GDC1/IO45RSB0 (io), F9 GDC0/IO46RSB0 (io)
part B pins: B1 GAA2/IO95RSB1 (io), C1 GAB2/IO93RSB1 (io), C2 IO94RSB1 (io), D1 GAC2/IO91RSB1 (io), D2 IO92RSB1 (io), D3 GFA2/IO80RSB1 (io), E1 GFB0/IO83RSB1 (io), E2 GFB1/IO84RSB1 (io), E3 GFA1/IO81RSB1 (io), G1 GEA0/IO69RSB1 (io), G2 GEC1/IO74RSB1 (io), G3 GEB1/IO72RSB1 (io), G4 IO63RSB1 (io), G5 IO60RSB1 (io), G6 IO54RSB1 (io), G7 GDB2/IO52RSB1 (io), H1 GEA1/IO70RSB1 (io), H2 FF/GEB2/IO67RSB1 (io), H3 IO65RSB1 (io), H4 IO62RSB1 (io), H5 IO59RSB1 (io), H6 IO56RSB1 (io), H7 GDA2/IO51RSB1 (io), J1 GEA2/IO68RSB1 (io), J2 GEC2/IO66RSB1 (io), J3 IO64RSB1 (io), J4 IO61RSB1 (io), J5 IO58RSB1 (io), J6 IO55RSB1 (io)
part C pins: G9 TRST (in), H8 TDI (in), H9 TDO (out), J7 TCK (in), J8 TMS (in)
part D pins: D4 VCC (power), D5 VCCIB0 (power), E4 VCCIB1 (power), E5 VCC (power), E6 VCCIB0 (power), F5 VCCIB1 (power), G8 VJTAG (power), J9 VPUMP (power)
part E pins: C3 GND (power), C6 GND (power), D6 GND (power), F3 GND (power), F4 GND (power), F6 GND (power)
part F pins: F1 VCCPLF (power), F2 VCOMPLF (power)
part A text: BANK 0
part B text: BANK 1

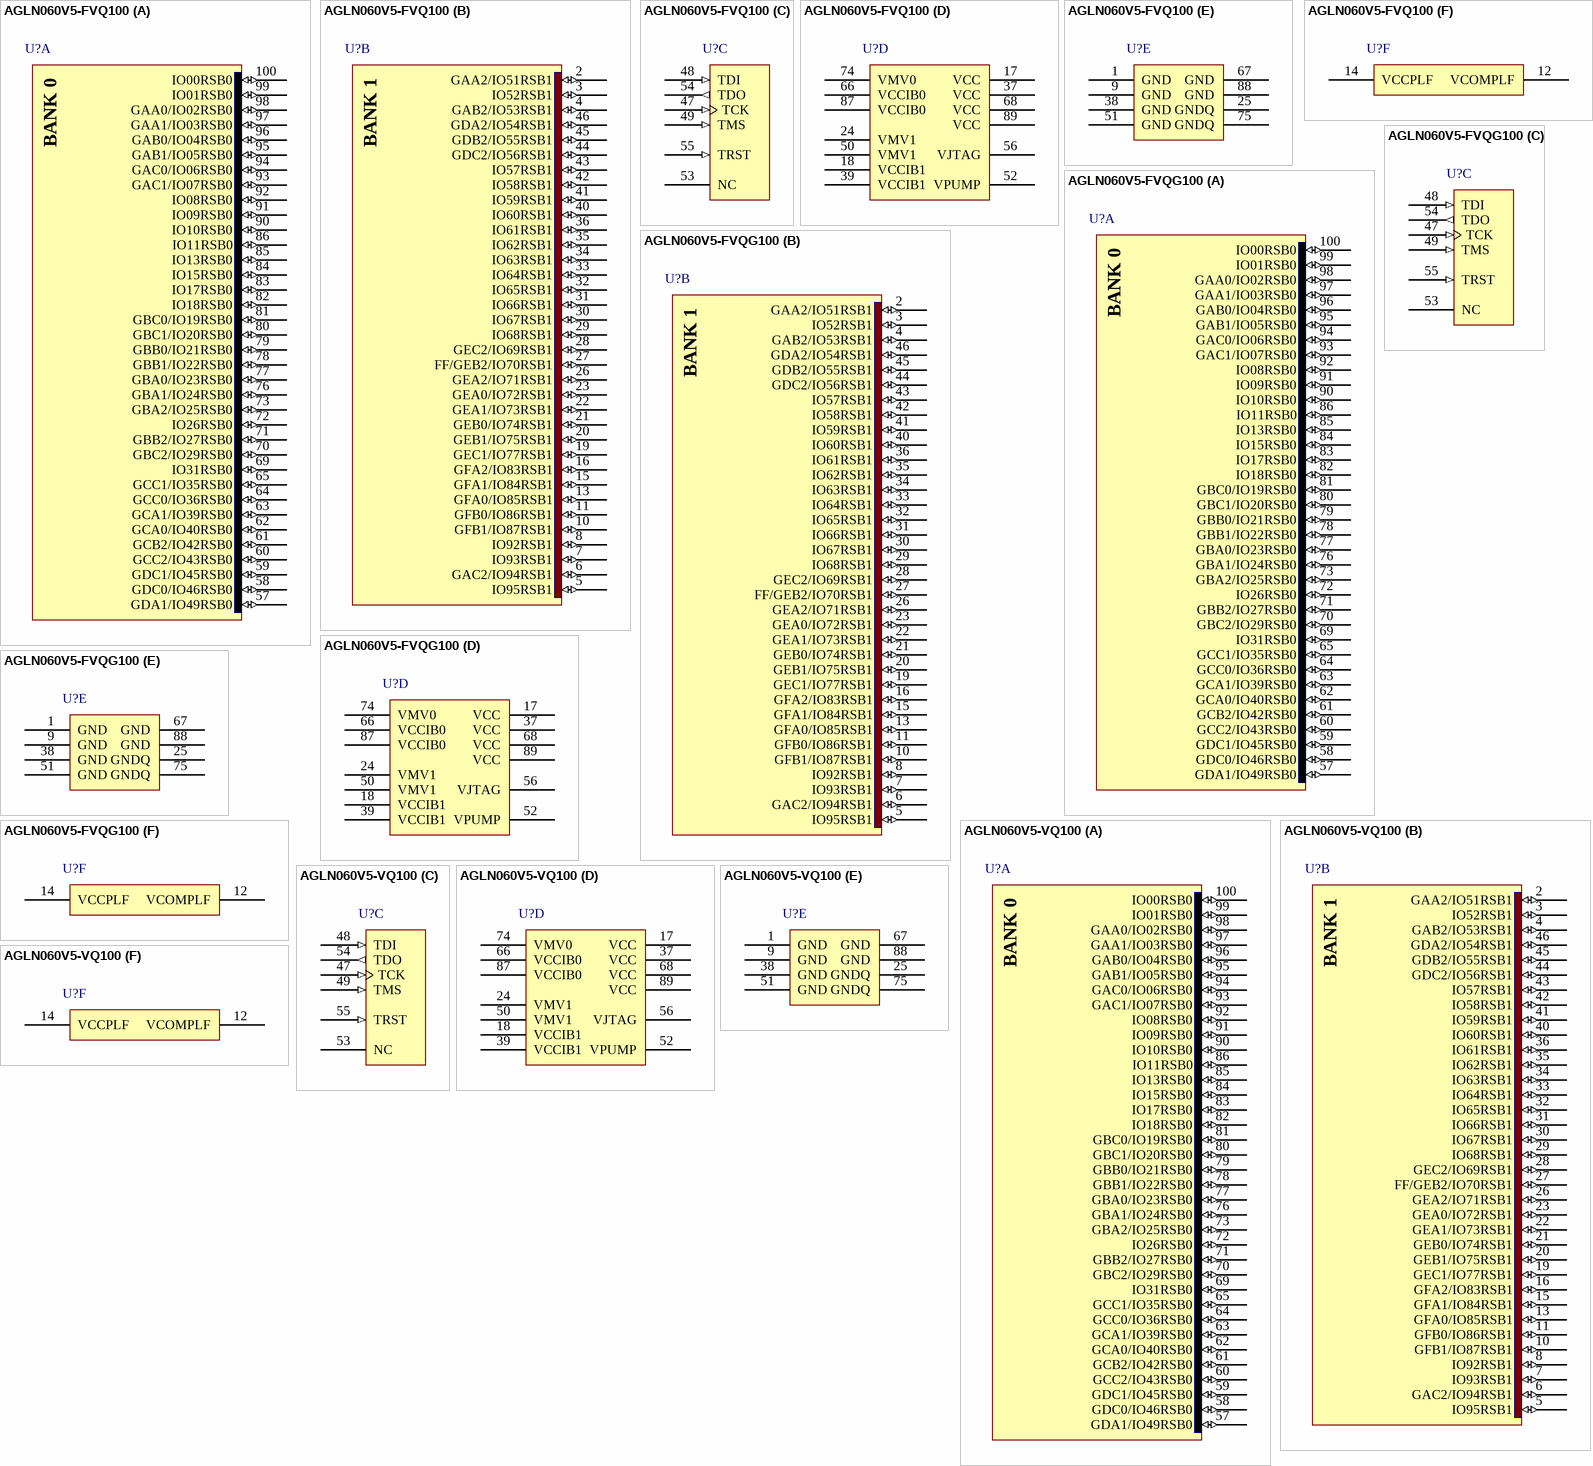
[diagram p34: symbols AGLN060V5-FVQ100 to AGLN060V5-VQ100]

## AGLN060V5-FVQ100
designator U?
IGLOO nano Low-Power Flash 1.5V FPGA with Flash*Freeze, 71 User IOs, 60K System Gates, 1Kbit Flash ROM, 100-Pin TQFP, F Speed Grade, Commercial Grade; ComponentAvailability: F speed grade removed in ver0.7, Apr-2009 datasheet.; Published: 29-May-2009; DatasheetVersion: v0.6, Feb-2009; PackageVersion: ver11.2, Nov-2009; PackageReference: VQ100; Publisher: Altium Limited; PackageDescription: 100-Pin Plastic Quad Flat Pack (VQ100); Code_JEDEC: MS-026-AED; ComponentLink1Description: IGLOO nano Datasheet; ComponentLink1URL: http://www.actel.com/documents/IGLOO_nano_DS.pdf; ComponentLink2Description: Package Mechanical Drawings; ComponentLink2URL: http://www.actel.com/documents/PckgMechDrwngs.pdf; ComponentLink3Description: IGLOO nano Documents; ComponentLink3URL: http://www.actel.com/products/igloonano/docs.aspx; ComponentLink4Description: Actel.com Home; ComponentLink4URL: http://www.actel.com/
footprint VQ100_N (Thin QFP, 100-Leads, Body 14x14mm, Pitch 0.5mm, IPC Medium Density)
footprint VQ100_L (Thin QFP, 100-Leads, Body 14x14mm, Pitch 0.5mm, IPC High Density)
footprint VQ100_M (Thin QFP, 100-Leads, Body 14x14mm, Pitch 0.5mm, IPC Low Density)
signal-integrity model AGLN060-VQ100 (IGLOO nano)
part A pins: 57 GDA1/IO49RSB0 (io), 58 GDC0/IO46RSB0 (io), 59 GDC1/IO45RSB0 (io), 60 GCC2/IO43RSB0 (io), 61 GCB2/IO42RSB0 (io), 62 GCA0/IO40RSB0 (io), 63 GCA1/IO39RSB0 (io), 64 GCC0/IO36RSB0 (io), 65 GCC1/IO35RSB0 (io), 69 IO31RSB0 (io), 70 GBC2/IO29RSB0 (io), 71 GBB2/IO27RSB0 (io), 72 IO26RSB0 (io), 73 GBA2/IO25RSB0 (io), 76 GBA1/IO24RSB0 (io), 77 GBA0/IO23RSB0 (io), 78 GBB1/IO22RSB0 (io), 79 GBB0/IO21RSB0 (io), 80 GBC1/IO20RSB0 (io), 81 GBC0/IO19RSB0 (io), 82 IO18RSB0 (io), 83 IO17RSB0 (io), 84 IO15RSB0 (io), 85 IO13RSB0 (io), 86 IO11RSB0 (io), 90 IO10RSB0 (io), 91 IO09RSB0 (io), 92 IO08RSB0 (io), 93 GAC1/IO07RSB0 (io), 94 GAC0/IO06RSB0 (io), 95 GAB1/IO05RSB0 (io), 96 GAB0/IO04RSB0 (io), 97 GAA1/IO03RSB0 (io), 98 GAA0/IO02RSB0 (io), 99 IO01RSB0 (io), 100 IO00RSB0 (io)
part B pins: 2 GAA2/IO51RSB1 (io), 3 IO52RSB1 (io), 4 GAB2/IO53RSB1 (io), 5 IO95RSB1 (io), 6 GAC2/IO94RSB1 (io), 7 IO93RSB1 (io), 8 IO92RSB1 (io), 10 GFB1/IO87RSB1 (io), 11 GFB0/IO86RSB1 (io), 13 GFA0/IO85RSB1 (io), 15 GFA1/IO84RSB1 (io), 16 GFA2/IO83RSB1 (io), 19 GEC1/IO77RSB1 (io), 20 GEB1/IO75RSB1 (io), 21 GEB0/IO74RSB1 (io), 22 GEA1/IO73RSB1 (io), 23 GEA0/IO72RSB1 (io), 26 GEA2/IO71RSB1 (io), 27 FF/GEB2/IO70RSB1 (io), 28 GEC2/IO69RSB1 (io), 29 IO68RSB1 (io), 30 IO67RSB1 (io), 31 IO66RSB1 (io), 32 IO65RSB1 (io), 33 IO64RSB1 (io), 34 IO63RSB1 (io), 35 IO62RSB1 (io), 36 IO61RSB1 (io), 40 IO60RSB1 (io), 41 IO59RSB1 (io), 42 IO58RSB1 (io), 43 IO57RSB1 (io), 44 GDC2/IO56RSB1 (io), 45 GDB2/IO55RSB1 (io), 46 GDA2/IO54RSB1 (io)
part C pins: 47 TCK (in), 48 TDI (in), 49 TMS (in), 53 NC, 54 TDO (out), 55 TRST (in)
part D pins: 17 VCC (power), 18 VCCIB1 (power), 24 VMV1 (power), 37 VCC (power), 39 VCCIB1 (power), 50 VMV1 (power), 52 VPUMP (power), 56 VJTAG (power), 66 VCCIB0 (power), 68 VCC (power), 74 VMV0 (power), 87 VCCIB0 (power), 89 VCC (power)
part E pins: 1 GND (power), 9 GND (power), 25 GNDQ (power), 38 GND (power), 51 GND (power), 67 GND (power), 75 GNDQ (power), 88 GND (power)
part F pins: 12 VCOMPLF (power), 14 VCCPLF (power)
part A text: BANK 0
part B text: BANK 1

## AGLN060V5-FVQG100
designator U?
IGLOO nano Low-Power Flash 1.5V FPGA with Flash*Freeze, 71 User IOs, 60K System Gates, 1Kbit Flash ROM, 100-Pin TQFP, F Speed Grade, Commercial Grade, Pb-Free; ComponentAvailability: F speed grade removed in ver0.7, Apr-2009 datasheet.; Published: 29-May-2009; DatasheetVersion: v0.6, Feb-2009; PackageVersion: ver11.2, Nov-2009; PackageReference: VQ100; Publisher: Altium Limited; PackageDescription: 100-Pin Plastic Quad Flat Pack (VQ100); Code_JEDEC: MS-026-AED; ComponentLink1Description: IGLOO nano Datasheet; ComponentLink1URL: http://www.actel.com/documents/IGLOO_nano_DS.pdf; ComponentLink2Description: Package Mechanical Drawings; ComponentLink2URL: http://www.actel.com/documents/PckgMechDrwngs.pdf; ComponentLink3Description: IGLOO nano Documents; ComponentLink3URL: http://www.actel.com/products/igloonano/docs.aspx; ComponentLink4Description: Actel.com Home; ComponentLink4URL: http://www.actel.com/
footprint VQ100_N (Thin QFP, 100-Leads, Body 14x14mm, Pitch 0.5mm, IPC Medium Density)
footprint VQ100_L (Thin QFP, 100-Leads, Body 14x14mm, Pitch 0.5mm, IPC High Density)
footprint VQ100_M (Thin QFP, 100-Leads, Body 14x14mm, Pitch 0.5mm, IPC Low Density)
signal-integrity model AGLN060-VQ100 (IGLOO nano)
part A pins: 57 GDA1/IO49RSB0 (io), 58 GDC0/IO46RSB0 (io), 59 GDC1/IO45RSB0 (io), 60 GCC2/IO43RSB0 (io), 61 GCB2/IO42RSB0 (io), 62 GCA0/IO40RSB0 (io), 63 GCA1/IO39RSB0 (io), 64 GCC0/IO36RSB0 (io), 65 GCC1/IO35RSB0 (io), 69 IO31RSB0 (io), 70 GBC2/IO29RSB0 (io), 71 GBB2/IO27RSB0 (io), 72 IO26RSB0 (io), 73 GBA2/IO25RSB0 (io), 76 GBA1/IO24RSB0 (io), 77 GBA0/IO23RSB0 (io), 78 GBB1/IO22RSB0 (io), 79 GBB0/IO21RSB0 (io), 80 GBC1/IO20RSB0 (io), 81 GBC0/IO19RSB0 (io), 82 IO18RSB0 (io), 83 IO17RSB0 (io), 84 IO15RSB0 (io), 85 IO13RSB0 (io), 86 IO11RSB0 (io), 90 IO10RSB0 (io), 91 IO09RSB0 (io), 92 IO08RSB0 (io), 93 GAC1/IO07RSB0 (io), 94 GAC0/IO06RSB0 (io), 95 GAB1/IO05RSB0 (io), 96 GAB0/IO04RSB0 (io), 97 GAA1/IO03RSB0 (io), 98 GAA0/IO02RSB0 (io), 99 IO01RSB0 (io), 100 IO00RSB0 (io)
part B pins: 2 GAA2/IO51RSB1 (io), 3 IO52RSB1 (io), 4 GAB2/IO53RSB1 (io), 5 IO95RSB1 (io), 6 GAC2/IO94RSB1 (io), 7 IO93RSB1 (io), 8 IO92RSB1 (io), 10 GFB1/IO87RSB1 (io), 11 GFB0/IO86RSB1 (io), 13 GFA0/IO85RSB1 (io), 15 GFA1/IO84RSB1 (io), 16 GFA2/IO83RSB1 (io), 19 GEC1/IO77RSB1 (io), 20 GEB1/IO75RSB1 (io), 21 GEB0/IO74RSB1 (io), 22 GEA1/IO73RSB1 (io), 23 GEA0/IO72RSB1 (io), 26 GEA2/IO71RSB1 (io), 27 FF/GEB2/IO70RSB1 (io), 28 GEC2/IO69RSB1 (io), 29 IO68RSB1 (io), 30 IO67RSB1 (io), 31 IO66RSB1 (io), 32 IO65RSB1 (io), 33 IO64RSB1 (io), 34 IO63RSB1 (io), 35 IO62RSB1 (io), 36 IO61RSB1 (io), 40 IO60RSB1 (io), 41 IO59RSB1 (io), 42 IO58RSB1 (io), 43 IO57RSB1 (io), 44 GDC2/IO56RSB1 (io), 45 GDB2/IO55RSB1 (io), 46 GDA2/IO54RSB1 (io)
part C pins: 47 TCK (in), 48 TDI (in), 49 TMS (in), 53 NC, 54 TDO (out), 55 TRST (in)
part D pins: 17 VCC (power), 18 VCCIB1 (power), 24 VMV1 (power), 37 VCC (power), 39 VCCIB1 (power), 50 VMV1 (power), 52 VPUMP (power), 56 VJTAG (power), 66 VCCIB0 (power), 68 VCC (power), 74 VMV0 (power), 87 VCCIB0 (power), 89 VCC (power)
part E pins: 1 GND (power), 9 GND (power), 25 GNDQ (power), 38 GND (power), 51 GND (power), 67 GND (power), 75 GNDQ (power), 88 GND (power)
part F pins: 12 VCOMPLF (power), 14 VCCPLF (power)
part A text: BANK 0
part B text: BANK 1

## AGLN060V5-VQ100
designator U?
IGLOO nano Low-Power Flash 1.5V FPGA with Flash*Freeze, 71 User IOs, 60K System Gates, 1Kbit Flash ROM, 100-Pin TQFP, Commercial Grade; Published: 29-May-2009; LatestRevisionDate: 26-Feb-2010; LatestRevisionNote: Updated to datasheet version 0.8 Jan-2010.; DatasheetVersion: v0.8, Jan-2010; PackageVersion: ver11.2, Nov-2009; PackageReference: VQ100; Publisher: Altium Limited; PackageDescription: 100-Pin Plastic Quad Flat Pack (VQ100); Code_JEDEC: MS-026-AED; ComponentLink1Description: IGLOO nano Datasheet; ComponentLink1URL: http://www.actel.com/documents/IGLOO_nano_DS.pdf; ComponentLink2Description: Package Mechanical Drawings; ComponentLink2URL: http://www.actel.com/documents/PckgMechDrwngs.pdf; ComponentLink3Description: IGLOO nano Documents; ComponentLink3URL: http://www.actel.com/products/igloonano/docs.aspx; ComponentLink4Description: Actel.com Home; ComponentLink4URL: http://www.actel.com/
footprint VQ100_N (Thin QFP, 100-Leads, Body 14x14mm, Pitch 0.5mm, IPC Medium Density)
footprint VQ100_L (Thin QFP, 100-Leads, Body 14x14mm, Pitch 0.5mm, IPC High Density)
footprint VQ100_M (Thin QFP, 100-Leads, Body 14x14mm, Pitch 0.5mm, IPC Low Density)
signal-integrity model AGLN060-VQ100 (IGLOO nano)
part A pins: 57 GDA1/IO49RSB0 (io), 58 GDC0/IO46RSB0 (io), 59 GDC1/IO45RSB0 (io), 60 GCC2/IO43RSB0 (io), 61 GCB2/IO42RSB0 (io), 62 GCA0/IO40RSB0 (io), 63 GCA1/IO39RSB0 (io), 64 GCC0/IO36RSB0 (io), 65 GCC1/IO35RSB0 (io), 69 IO31RSB0 (io), 70 GBC2/IO29RSB0 (io), 71 GBB2/IO27RSB0 (io), 72 IO26RSB0 (io), 73 GBA2/IO25RSB0 (io), 76 GBA1/IO24RSB0 (io), 77 GBA0/IO23RSB0 (io), 78 GBB1/IO22RSB0 (io), 79 GBB0/IO21RSB0 (io), 80 GBC1/IO20RSB0 (io), 81 GBC0/IO19RSB0 (io), 82 IO18RSB0 (io), 83 IO17RSB0 (io), 84 IO15RSB0 (io), 85 IO13RSB0 (io), 86 IO11RSB0 (io), 90 IO10RSB0 (io), 91 IO09RSB0 (io), 92 IO08RSB0 (io), 93 GAC1/IO07RSB0 (io), 94 GAC0/IO06RSB0 (io), 95 GAB1/IO05RSB0 (io), 96 GAB0/IO04RSB0 (io), 97 GAA1/IO03RSB0 (io), 98 GAA0/IO02RSB0 (io), 99 IO01RSB0 (io), 100 IO00RSB0 (io)
part B pins: 2 GAA2/IO51RSB1 (io), 3 IO52RSB1 (io), 4 GAB2/IO53RSB1 (io), 5 IO95RSB1 (io), 6 GAC2/IO94RSB1 (io), 7 IO93RSB1 (io), 8 IO92RSB1 (io), 10 GFB1/IO87RSB1 (io), 11 GFB0/IO86RSB1 (io), 13 GFA0/IO85RSB1 (io), 15 GFA1/IO84RSB1 (io), 16 GFA2/IO83RSB1 (io), 19 GEC1/IO77RSB1 (io), 20 GEB1/IO75RSB1 (io), 21 GEB0/IO74RSB1 (io), 22 GEA1/IO73RSB1 (io), 23 GEA0/IO72RSB1 (io), 26 GEA2/IO71RSB1 (io), 27 FF/GEB2/IO70RSB1 (io), 28 GEC2/IO69RSB1 (io), 29 IO68RSB1 (io), 30 IO67RSB1 (io), 31 IO66RSB1 (io), 32 IO65RSB1 (io), 33 IO64RSB1 (io), 34 IO63RSB1 (io), 35 IO62RSB1 (io), 36 IO61RSB1 (io), 40 IO60RSB1 (io), 41 IO59RSB1 (io), 42 IO58RSB1 (io), 43 IO57RSB1 (io), 44 GDC2/IO56RSB1 (io), 45 GDB2/IO55RSB1 (io), 46 GDA2/IO54RSB1 (io)
part C pins: 47 TCK (in), 48 TDI (in), 49 TMS (in), 53 NC, 54 TDO (out), 55 TRST (in)
part D pins: 17 VCC (power), 18 VCCIB1 (power), 24 VMV1 (power), 37 VCC (power), 39 VCCIB1 (power), 50 VMV1 (power), 52 VPUMP (power), 56 VJTAG (power), 66 VCCIB0 (power), 68 VCC (power), 74 VMV0 (power), 87 VCCIB0 (power), 89 VCC (power)
part E pins: 1 GND (power), 9 GND (power), 25 GNDQ (power), 38 GND (power), 51 GND (power), 67 GND (power), 75 GNDQ (power), 88 GND (power)
part F pins: 12 VCOMPLF (power), 14 VCCPLF (power)
part A text: BANK 0
part B text: BANK 1

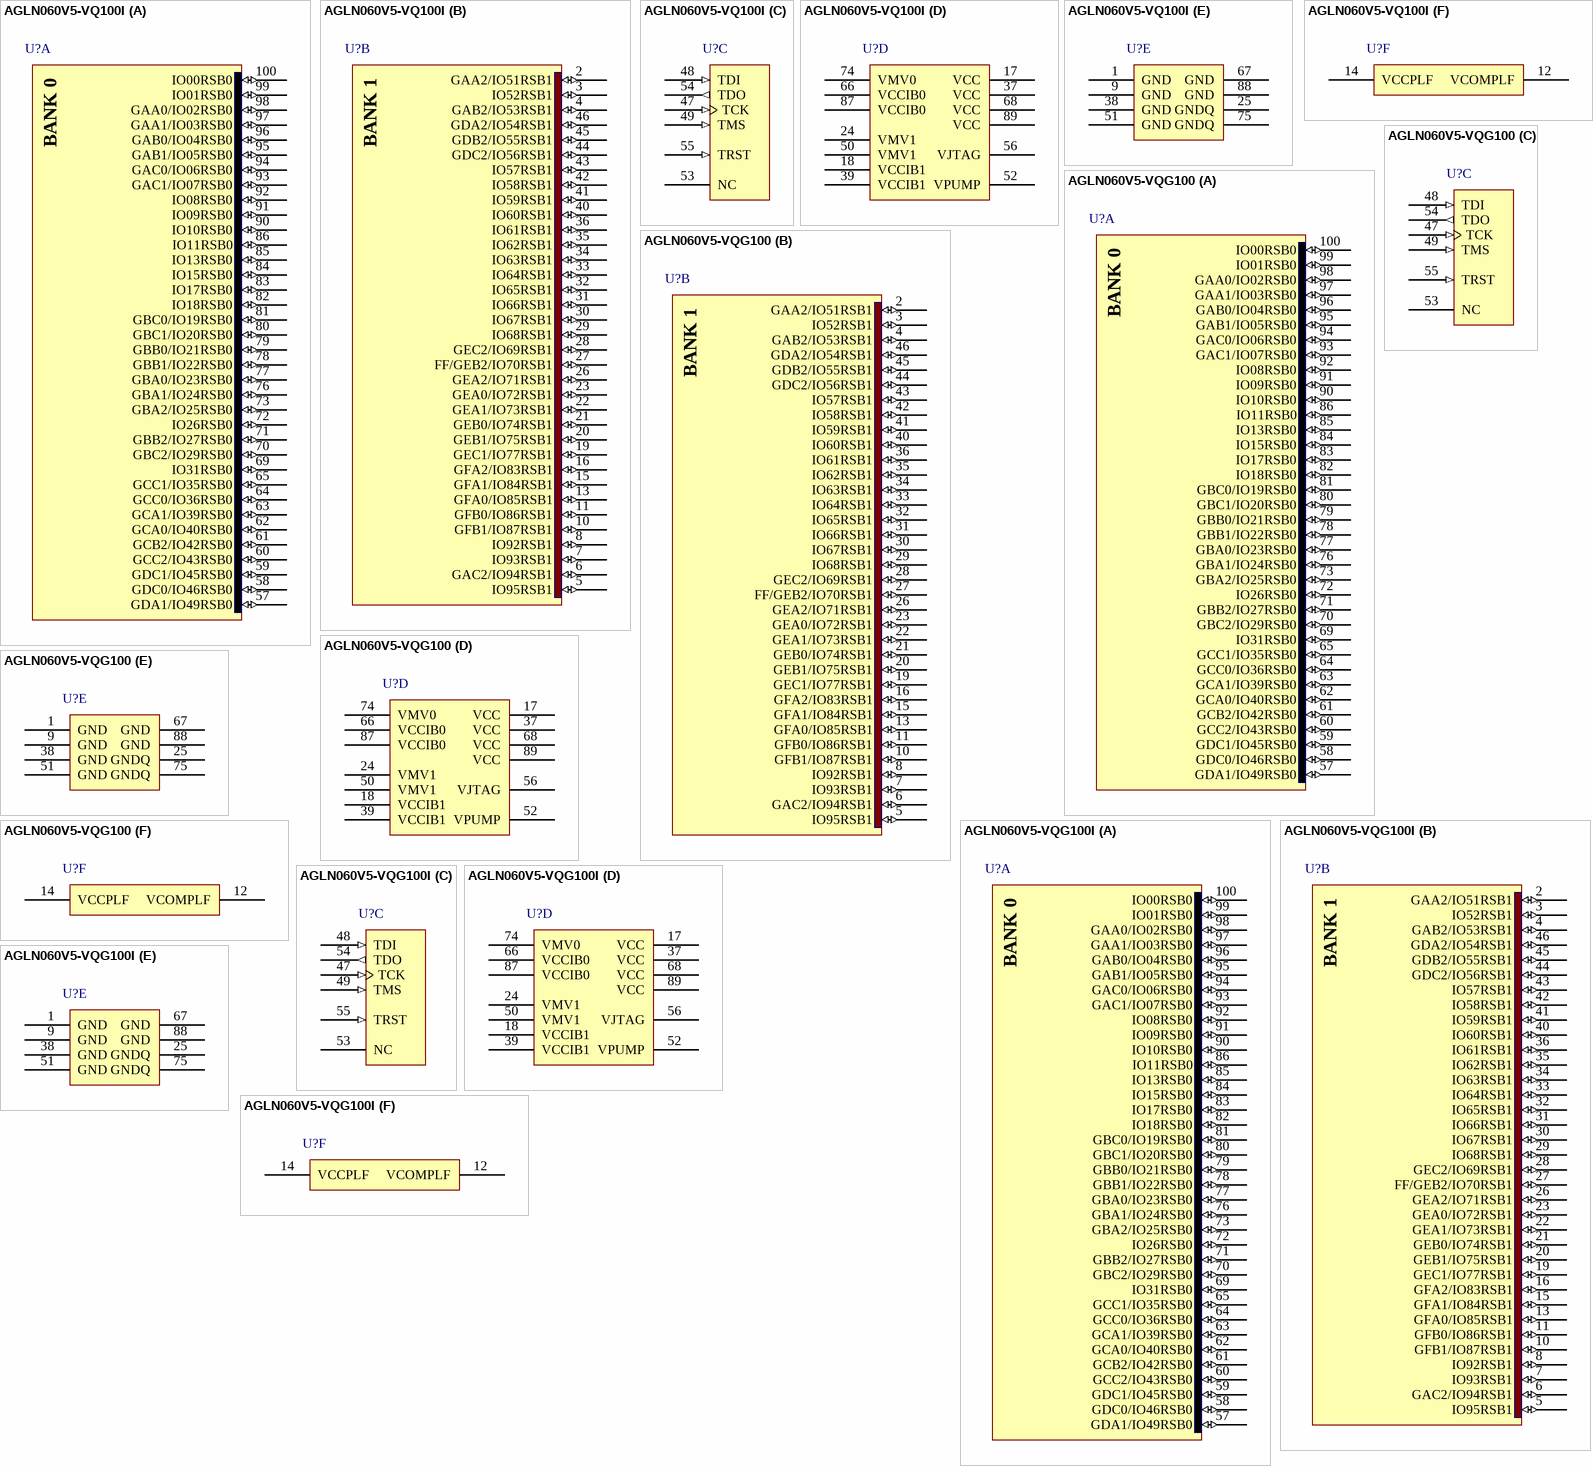
[diagram p35: symbols AGLN060V5-VQ100I to AGLN060V5-VQG100I]

## AGLN060V5-VQ100I
designator U?
IGLOO nano Low-Power Flash 1.5V FPGA with Flash*Freeze, 71 User IOs, 60K System Gates, 1Kbit Flash ROM, 100-Pin TQFP, Industrial Grade; Published: 29-May-2009; LatestRevisionDate: 26-Feb-2010; LatestRevisionNote: Updated to datasheet version 0.8 Jan-2010.; DatasheetVersion: v0.8, Jan-2010; PackageVersion: ver11.2, Nov-2009; PackageReference: VQ100; Publisher: Altium Limited; PackageDescription: 100-Pin Plastic Quad Flat Pack (VQ100); Code_JEDEC: MS-026-AED; ComponentLink1Description: IGLOO nano Datasheet; ComponentLink1URL: http://www.actel.com/documents/IGLOO_nano_DS.pdf; ComponentLink2Description: Package Mechanical Drawings; ComponentLink2URL: http://www.actel.com/documents/PckgMechDrwngs.pdf; ComponentLink3Description: IGLOO nano Documents; ComponentLink3URL: http://www.actel.com/products/igloonano/docs.aspx; ComponentLink4Description: Actel.com Home; ComponentLink4URL: http://www.actel.com/
footprint VQ100_N (Thin QFP, 100-Leads, Body 14x14mm, Pitch 0.5mm, IPC Medium Density)
footprint VQ100_L (Thin QFP, 100-Leads, Body 14x14mm, Pitch 0.5mm, IPC High Density)
footprint VQ100_M (Thin QFP, 100-Leads, Body 14x14mm, Pitch 0.5mm, IPC Low Density)
signal-integrity model AGLN060-VQ100 (IGLOO nano)
part A pins: 57 GDA1/IO49RSB0 (io), 58 GDC0/IO46RSB0 (io), 59 GDC1/IO45RSB0 (io), 60 GCC2/IO43RSB0 (io), 61 GCB2/IO42RSB0 (io), 62 GCA0/IO40RSB0 (io), 63 GCA1/IO39RSB0 (io), 64 GCC0/IO36RSB0 (io), 65 GCC1/IO35RSB0 (io), 69 IO31RSB0 (io), 70 GBC2/IO29RSB0 (io), 71 GBB2/IO27RSB0 (io), 72 IO26RSB0 (io), 73 GBA2/IO25RSB0 (io), 76 GBA1/IO24RSB0 (io), 77 GBA0/IO23RSB0 (io), 78 GBB1/IO22RSB0 (io), 79 GBB0/IO21RSB0 (io), 80 GBC1/IO20RSB0 (io), 81 GBC0/IO19RSB0 (io), 82 IO18RSB0 (io), 83 IO17RSB0 (io), 84 IO15RSB0 (io), 85 IO13RSB0 (io), 86 IO11RSB0 (io), 90 IO10RSB0 (io), 91 IO09RSB0 (io), 92 IO08RSB0 (io), 93 GAC1/IO07RSB0 (io), 94 GAC0/IO06RSB0 (io), 95 GAB1/IO05RSB0 (io), 96 GAB0/IO04RSB0 (io), 97 GAA1/IO03RSB0 (io), 98 GAA0/IO02RSB0 (io), 99 IO01RSB0 (io), 100 IO00RSB0 (io)
part B pins: 2 GAA2/IO51RSB1 (io), 3 IO52RSB1 (io), 4 GAB2/IO53RSB1 (io), 5 IO95RSB1 (io), 6 GAC2/IO94RSB1 (io), 7 IO93RSB1 (io), 8 IO92RSB1 (io), 10 GFB1/IO87RSB1 (io), 11 GFB0/IO86RSB1 (io), 13 GFA0/IO85RSB1 (io), 15 GFA1/IO84RSB1 (io), 16 GFA2/IO83RSB1 (io), 19 GEC1/IO77RSB1 (io), 20 GEB1/IO75RSB1 (io), 21 GEB0/IO74RSB1 (io), 22 GEA1/IO73RSB1 (io), 23 GEA0/IO72RSB1 (io), 26 GEA2/IO71RSB1 (io), 27 FF/GEB2/IO70RSB1 (io), 28 GEC2/IO69RSB1 (io), 29 IO68RSB1 (io), 30 IO67RSB1 (io), 31 IO66RSB1 (io), 32 IO65RSB1 (io), 33 IO64RSB1 (io), 34 IO63RSB1 (io), 35 IO62RSB1 (io), 36 IO61RSB1 (io), 40 IO60RSB1 (io), 41 IO59RSB1 (io), 42 IO58RSB1 (io), 43 IO57RSB1 (io), 44 GDC2/IO56RSB1 (io), 45 GDB2/IO55RSB1 (io), 46 GDA2/IO54RSB1 (io)
part C pins: 47 TCK (in), 48 TDI (in), 49 TMS (in), 53 NC, 54 TDO (out), 55 TRST (in)
part D pins: 17 VCC (power), 18 VCCIB1 (power), 24 VMV1 (power), 37 VCC (power), 39 VCCIB1 (power), 50 VMV1 (power), 52 VPUMP (power), 56 VJTAG (power), 66 VCCIB0 (power), 68 VCC (power), 74 VMV0 (power), 87 VCCIB0 (power), 89 VCC (power)
part E pins: 1 GND (power), 9 GND (power), 25 GNDQ (power), 38 GND (power), 51 GND (power), 67 GND (power), 75 GNDQ (power), 88 GND (power)
part F pins: 12 VCOMPLF (power), 14 VCCPLF (power)
part A text: BANK 0
part B text: BANK 1

## AGLN060V5-VQG100
designator U?
IGLOO nano Low-Power Flash 1.5V FPGA with Flash*Freeze, 71 User IOs, 60K System Gates, 1Kbit Flash ROM, 100-Pin TQFP, Commercial Grade, Pb-Free; Published: 29-May-2009; LatestRevisionDate: 26-Feb-2010; LatestRevisionNote: Updated to datasheet version 0.8 Jan-2010.; DatasheetVersion: v0.8, Jan-2010; PackageVersion: ver11.2, Nov-2009; PackageReference: VQ100; Publisher: Altium Limited; PackageDescription: 100-Pin Plastic Quad Flat Pack (VQ100); Code_JEDEC: MS-026-AED; ComponentLink1Description: IGLOO nano Datasheet; ComponentLink1URL: http://www.actel.com/documents/IGLOO_nano_DS.pdf; ComponentLink2Description: Package Mechanical Drawings; ComponentLink2URL: http://www.actel.com/documents/PckgMechDrwngs.pdf; ComponentLink3Description: IGLOO nano Documents; ComponentLink3URL: http://www.actel.com/products/igloonano/docs.aspx; ComponentLink4Description: Actel.com Home; ComponentLink4URL: http://www.actel.com/
footprint VQ100_N (Thin QFP, 100-Leads, Body 14x14mm, Pitch 0.5mm, IPC Medium Density)
footprint VQ100_L (Thin QFP, 100-Leads, Body 14x14mm, Pitch 0.5mm, IPC High Density)
footprint VQ100_M (Thin QFP, 100-Leads, Body 14x14mm, Pitch 0.5mm, IPC Low Density)
signal-integrity model AGLN060-VQ100 (IGLOO nano)
part A pins: 57 GDA1/IO49RSB0 (io), 58 GDC0/IO46RSB0 (io), 59 GDC1/IO45RSB0 (io), 60 GCC2/IO43RSB0 (io), 61 GCB2/IO42RSB0 (io), 62 GCA0/IO40RSB0 (io), 63 GCA1/IO39RSB0 (io), 64 GCC0/IO36RSB0 (io), 65 GCC1/IO35RSB0 (io), 69 IO31RSB0 (io), 70 GBC2/IO29RSB0 (io), 71 GBB2/IO27RSB0 (io), 72 IO26RSB0 (io), 73 GBA2/IO25RSB0 (io), 76 GBA1/IO24RSB0 (io), 77 GBA0/IO23RSB0 (io), 78 GBB1/IO22RSB0 (io), 79 GBB0/IO21RSB0 (io), 80 GBC1/IO20RSB0 (io), 81 GBC0/IO19RSB0 (io), 82 IO18RSB0 (io), 83 IO17RSB0 (io), 84 IO15RSB0 (io), 85 IO13RSB0 (io), 86 IO11RSB0 (io), 90 IO10RSB0 (io), 91 IO09RSB0 (io), 92 IO08RSB0 (io), 93 GAC1/IO07RSB0 (io), 94 GAC0/IO06RSB0 (io), 95 GAB1/IO05RSB0 (io), 96 GAB0/IO04RSB0 (io), 97 GAA1/IO03RSB0 (io), 98 GAA0/IO02RSB0 (io), 99 IO01RSB0 (io), 100 IO00RSB0 (io)
part B pins: 2 GAA2/IO51RSB1 (io), 3 IO52RSB1 (io), 4 GAB2/IO53RSB1 (io), 5 IO95RSB1 (io), 6 GAC2/IO94RSB1 (io), 7 IO93RSB1 (io), 8 IO92RSB1 (io), 10 GFB1/IO87RSB1 (io), 11 GFB0/IO86RSB1 (io), 13 GFA0/IO85RSB1 (io), 15 GFA1/IO84RSB1 (io), 16 GFA2/IO83RSB1 (io), 19 GEC1/IO77RSB1 (io), 20 GEB1/IO75RSB1 (io), 21 GEB0/IO74RSB1 (io), 22 GEA1/IO73RSB1 (io), 23 GEA0/IO72RSB1 (io), 26 GEA2/IO71RSB1 (io), 27 FF/GEB2/IO70RSB1 (io), 28 GEC2/IO69RSB1 (io), 29 IO68RSB1 (io), 30 IO67RSB1 (io), 31 IO66RSB1 (io), 32 IO65RSB1 (io), 33 IO64RSB1 (io), 34 IO63RSB1 (io), 35 IO62RSB1 (io), 36 IO61RSB1 (io), 40 IO60RSB1 (io), 41 IO59RSB1 (io), 42 IO58RSB1 (io), 43 IO57RSB1 (io), 44 GDC2/IO56RSB1 (io), 45 GDB2/IO55RSB1 (io), 46 GDA2/IO54RSB1 (io)
part C pins: 47 TCK (in), 48 TDI (in), 49 TMS (in), 53 NC, 54 TDO (out), 55 TRST (in)
part D pins: 17 VCC (power), 18 VCCIB1 (power), 24 VMV1 (power), 37 VCC (power), 39 VCCIB1 (power), 50 VMV1 (power), 52 VPUMP (power), 56 VJTAG (power), 66 VCCIB0 (power), 68 VCC (power), 74 VMV0 (power), 87 VCCIB0 (power), 89 VCC (power)
part E pins: 1 GND (power), 9 GND (power), 25 GNDQ (power), 38 GND (power), 51 GND (power), 67 GND (power), 75 GNDQ (power), 88 GND (power)
part F pins: 12 VCOMPLF (power), 14 VCCPLF (power)
part A text: BANK 0
part B text: BANK 1

## AGLN060V5-VQG100I
designator U?
IGLOO nano Low-Power Flash 1.5V FPGA with Flash*Freeze, 71 User IOs, 60K System Gates, 1Kbit Flash ROM, 100-Pin TQFP, Industrial Grade, Pb-Free; Published: 29-May-2009; LatestRevisionDate: 26-Feb-2010; LatestRevisionNote: Updated to datasheet version 0.8 Jan-2010.; DatasheetVersion: v0.8, Jan-2010; PackageVersion: ver11.2, Nov-2009; PackageReference: VQ100; Publisher: Altium Limited; PackageDescription: 100-Pin Plastic Quad Flat Pack (VQ100); Code_JEDEC: MS-026-AED; ComponentLink1Description: IGLOO nano Datasheet; ComponentLink1URL: http://www.actel.com/documents/IGLOO_nano_DS.pdf; ComponentLink2Description: Package Mechanical Drawings; ComponentLink2URL: http://www.actel.com/documents/PckgMechDrwngs.pdf; ComponentLink3Description: IGLOO nano Documents; ComponentLink3URL: http://www.actel.com/products/igloonano/docs.aspx; ComponentLink4Description: Actel.com Home; ComponentLink4URL: http://www.actel.com/
footprint VQ100_N (Thin QFP, 100-Leads, Body 14x14mm, Pitch 0.5mm, IPC Medium Density)
footprint VQ100_L (Thin QFP, 100-Leads, Body 14x14mm, Pitch 0.5mm, IPC High Density)
footprint VQ100_M (Thin QFP, 100-Leads, Body 14x14mm, Pitch 0.5mm, IPC Low Density)
signal-integrity model AGLN060-VQ100 (IGLOO nano)
part A pins: 57 GDA1/IO49RSB0 (io), 58 GDC0/IO46RSB0 (io), 59 GDC1/IO45RSB0 (io), 60 GCC2/IO43RSB0 (io), 61 GCB2/IO42RSB0 (io), 62 GCA0/IO40RSB0 (io), 63 GCA1/IO39RSB0 (io), 64 GCC0/IO36RSB0 (io), 65 GCC1/IO35RSB0 (io), 69 IO31RSB0 (io), 70 GBC2/IO29RSB0 (io), 71 GBB2/IO27RSB0 (io), 72 IO26RSB0 (io), 73 GBA2/IO25RSB0 (io), 76 GBA1/IO24RSB0 (io), 77 GBA0/IO23RSB0 (io), 78 GBB1/IO22RSB0 (io), 79 GBB0/IO21RSB0 (io), 80 GBC1/IO20RSB0 (io), 81 GBC0/IO19RSB0 (io), 82 IO18RSB0 (io), 83 IO17RSB0 (io), 84 IO15RSB0 (io), 85 IO13RSB0 (io), 86 IO11RSB0 (io), 90 IO10RSB0 (io), 91 IO09RSB0 (io), 92 IO08RSB0 (io), 93 GAC1/IO07RSB0 (io), 94 GAC0/IO06RSB0 (io), 95 GAB1/IO05RSB0 (io), 96 GAB0/IO04RSB0 (io), 97 GAA1/IO03RSB0 (io), 98 GAA0/IO02RSB0 (io), 99 IO01RSB0 (io), 100 IO00RSB0 (io)
part B pins: 2 GAA2/IO51RSB1 (io), 3 IO52RSB1 (io), 4 GAB2/IO53RSB1 (io), 5 IO95RSB1 (io), 6 GAC2/IO94RSB1 (io), 7 IO93RSB1 (io), 8 IO92RSB1 (io), 10 GFB1/IO87RSB1 (io), 11 GFB0/IO86RSB1 (io), 13 GFA0/IO85RSB1 (io), 15 GFA1/IO84RSB1 (io), 16 GFA2/IO83RSB1 (io), 19 GEC1/IO77RSB1 (io), 20 GEB1/IO75RSB1 (io), 21 GEB0/IO74RSB1 (io), 22 GEA1/IO73RSB1 (io), 23 GEA0/IO72RSB1 (io), 26 GEA2/IO71RSB1 (io), 27 FF/GEB2/IO70RSB1 (io), 28 GEC2/IO69RSB1 (io), 29 IO68RSB1 (io), 30 IO67RSB1 (io), 31 IO66RSB1 (io), 32 IO65RSB1 (io), 33 IO64RSB1 (io), 34 IO63RSB1 (io), 35 IO62RSB1 (io), 36 IO61RSB1 (io), 40 IO60RSB1 (io), 41 IO59RSB1 (io), 42 IO58RSB1 (io), 43 IO57RSB1 (io), 44 GDC2/IO56RSB1 (io), 45 GDB2/IO55RSB1 (io), 46 GDA2/IO54RSB1 (io)
part C pins: 47 TCK (in), 48 TDI (in), 49 TMS (in), 53 NC, 54 TDO (out), 55 TRST (in)
part D pins: 17 VCC (power), 18 VCCIB1 (power), 24 VMV1 (power), 37 VCC (power), 39 VCCIB1 (power), 50 VMV1 (power), 52 VPUMP (power), 56 VJTAG (power), 66 VCCIB0 (power), 68 VCC (power), 74 VMV0 (power), 87 VCCIB0 (power), 89 VCC (power)
part E pins: 1 GND (power), 9 GND (power), 25 GNDQ (power), 38 GND (power), 51 GND (power), 67 GND (power), 75 GNDQ (power), 88 GND (power)
part F pins: 12 VCOMPLF (power), 14 VCCPLF (power)
part A text: BANK 0
part B text: BANK 1

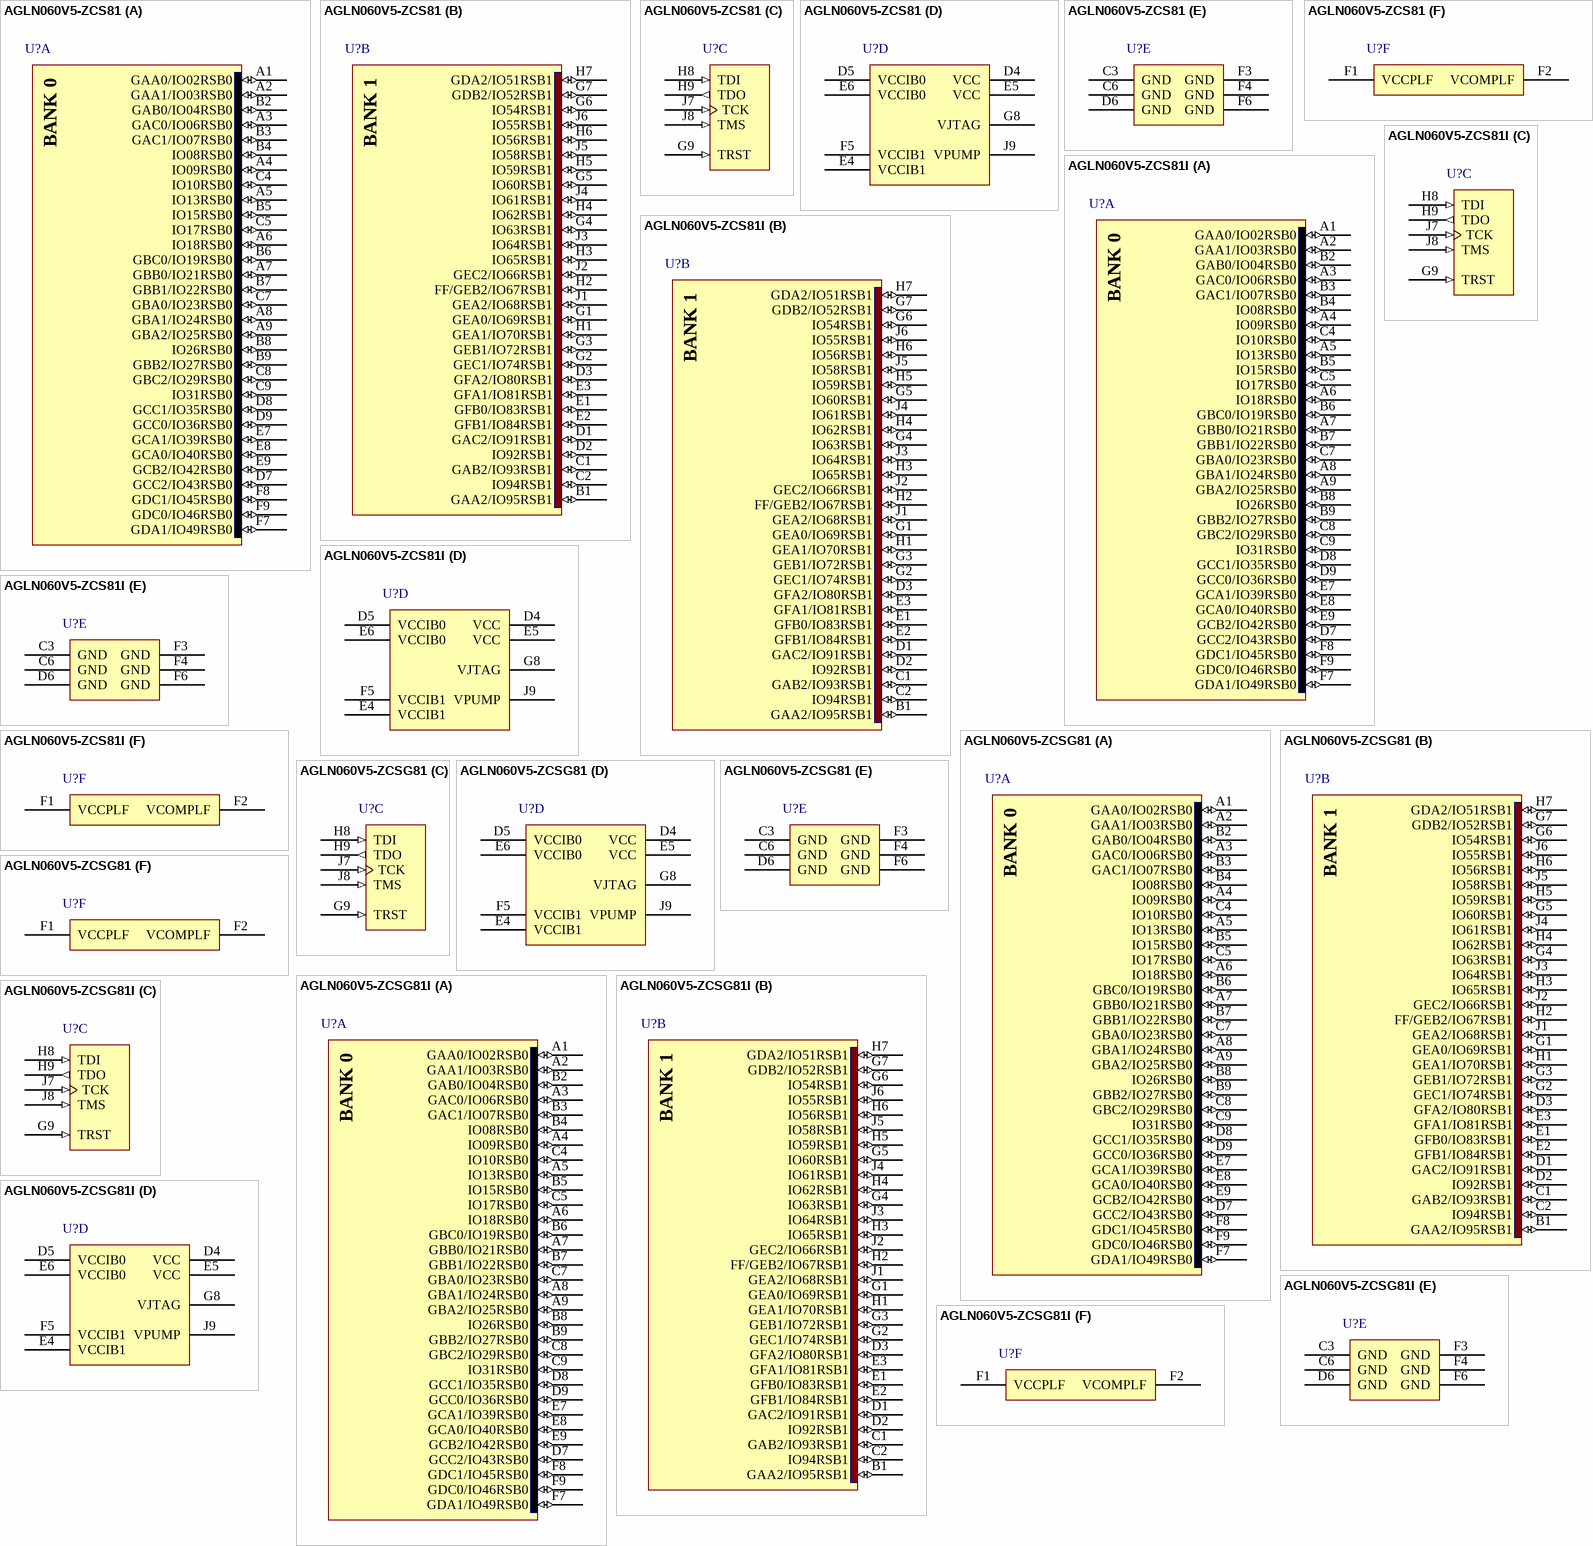
[diagram p36: symbols AGLN060V5-ZCS81 to AGLN060V5-ZCSG81I]

## AGLN060V5-ZCS81
designator U?
IGLOO nano Low-Power Flash 1.5V FPGA with Flash*Freeze, 60 User IOs, 60K System Gates, 1Kbit Flash ROM, Z feature grade, 81-Pin CSP, Commercial Grade; Published: 26-Feb-2010; DatasheetVersion: v0.8, Jan-2010; PackageVersion: ver11.2, Nov-2009; PackageReference: CS81; Publisher: Altium Limited; PackageDescription: 81-Ball Chip Scale Ball Grid Array 0.5 mm Pitch (CS81); Code_JEDEC: MO-195-AB; ComponentLink1Description: IGLOO nano Datasheet; ComponentLink1URL: http://www.actel.com/documents/IGLOO_nano_DS.pdf; ComponentLink2Description: Package Mechanical Drawings; ComponentLink2URL: http://www.actel.com/documents/PckgMechDrwngs.pdf; ComponentLink3Description: IGLOO nano Documents; ComponentLink3URL: http://www.actel.com/products/igloonano/docs.aspx; ComponentLink4Description: Actel.com Home; ComponentLink4URL: http://www.actel.com/
footprint CS81 (BGA, 81-Leads, Body 5x5mm, Pitch 0.5mm)
signal-integrity model AGLN060-CS81 (IGLOO nano)
part A pins: A1 GAA0/IO02RSB0 (io), A2 GAA1/IO03RSB0 (io), A3 GAC0/IO06RSB0 (io), A4 IO09RSB0 (io), A5 IO13RSB0 (io), A6 IO18RSB0 (io), A7 GBB0/IO21RSB0 (io), A8 GBA1/IO24RSB0 (io), A9 GBA2/IO25RSB0 (io), B2 GAB0/IO04RSB0 (io), B3 GAC1/IO07RSB0 (io), B4 IO08RSB0 (io), B5 IO15RSB0 (io), B6 GBC0/IO19RSB0 (io), B7 GBB1/IO22RSB0 (io), B8 IO26RSB0 (io), B9 GBB2/IO27RSB0 (io), C4 IO10RSB0 (io), C5 IO17RSB0 (io), C7 GBA0/IO23RSB0 (io), C8 GBC2/IO29RSB0 (io), C9 IO31RSB0 (io), D7 GCC2/IO43RSB0 (io), D8 GCC1/IO35RSB0 (io), D9 GCC0/IO36RSB0 (io), E7 GCA1/IO39RSB0 (io), E8 GCA0/IO40RSB0 (io), E9 GCB2/IO42RSB0 (io), F7 GDA1/IO49RSB0 (io), F8 GDC1/IO45RSB0 (io), F9 GDC0/IO46RSB0 (io)
part B pins: B1 GAA2/IO95RSB1 (io), C1 GAB2/IO93RSB1 (io), C2 IO94RSB1 (io), D1 GAC2/IO91RSB1 (io), D2 IO92RSB1 (io), D3 GFA2/IO80RSB1 (io), E1 GFB0/IO83RSB1 (io), E2 GFB1/IO84RSB1 (io), E3 GFA1/IO81RSB1 (io), G1 GEA0/IO69RSB1 (io), G2 GEC1/IO74RSB1 (io), G3 GEB1/IO72RSB1 (io), G4 IO63RSB1 (io), G5 IO60RSB1 (io), G6 IO54RSB1 (io), G7 GDB2/IO52RSB1 (io), H1 GEA1/IO70RSB1 (io), H2 FF/GEB2/IO67RSB1 (io), H3 IO65RSB1 (io), H4 IO62RSB1 (io), H5 IO59RSB1 (io), H6 IO56RSB1 (io), H7 GDA2/IO51RSB1 (io), J1 GEA2/IO68RSB1 (io), J2 GEC2/IO66RSB1 (io), J3 IO64RSB1 (io), J4 IO61RSB1 (io), J5 IO58RSB1 (io), J6 IO55RSB1 (io)
part C pins: G9 TRST (in), H8 TDI (in), H9 TDO (out), J7 TCK (in), J8 TMS (in)
part D pins: D4 VCC (power), D5 VCCIB0 (power), E4 VCCIB1 (power), E5 VCC (power), E6 VCCIB0 (power), F5 VCCIB1 (power), G8 VJTAG (power), J9 VPUMP (power)
part E pins: C3 GND (power), C6 GND (power), D6 GND (power), F3 GND (power), F4 GND (power), F6 GND (power)
part F pins: F1 VCCPLF (power), F2 VCOMPLF (power)
part A text: BANK 0
part B text: BANK 1

## AGLN060V5-ZCS81I
designator U?
IGLOO nano Low-Power Flash 1.5V FPGA with Flash*Freeze, 60 User IOs, 60K System Gates, 1Kbit Flash ROM, Z feature grade, 81-Pin CSP, Industrial Grade; Published: 26-Feb-2010; DatasheetVersion: v0.8, Jan-2010; PackageVersion: ver11.2, Nov-2009; PackageReference: CS81; Publisher: Altium Limited; PackageDescription: 81-Ball Chip Scale Ball Grid Array 0.5 mm Pitch (CS81); Code_JEDEC: MO-195-AB; ComponentLink1Description: IGLOO nano Datasheet; ComponentLink1URL: http://www.actel.com/documents/IGLOO_nano_DS.pdf; ComponentLink2Description: Package Mechanical Drawings; ComponentLink2URL: http://www.actel.com/documents/PckgMechDrwngs.pdf; ComponentLink3Description: IGLOO nano Documents; ComponentLink3URL: http://www.actel.com/products/igloonano/docs.aspx; ComponentLink4Description: Actel.com Home; ComponentLink4URL: http://www.actel.com/
footprint CS81 (BGA, 81-Leads, Body 5x5mm, Pitch 0.5mm)
signal-integrity model AGLN060-CS81 (IGLOO nano)
part A pins: A1 GAA0/IO02RSB0 (io), A2 GAA1/IO03RSB0 (io), A3 GAC0/IO06RSB0 (io), A4 IO09RSB0 (io), A5 IO13RSB0 (io), A6 IO18RSB0 (io), A7 GBB0/IO21RSB0 (io), A8 GBA1/IO24RSB0 (io), A9 GBA2/IO25RSB0 (io), B2 GAB0/IO04RSB0 (io), B3 GAC1/IO07RSB0 (io), B4 IO08RSB0 (io), B5 IO15RSB0 (io), B6 GBC0/IO19RSB0 (io), B7 GBB1/IO22RSB0 (io), B8 IO26RSB0 (io), B9 GBB2/IO27RSB0 (io), C4 IO10RSB0 (io), C5 IO17RSB0 (io), C7 GBA0/IO23RSB0 (io), C8 GBC2/IO29RSB0 (io), C9 IO31RSB0 (io), D7 GCC2/IO43RSB0 (io), D8 GCC1/IO35RSB0 (io), D9 GCC0/IO36RSB0 (io), E7 GCA1/IO39RSB0 (io), E8 GCA0/IO40RSB0 (io), E9 GCB2/IO42RSB0 (io), F7 GDA1/IO49RSB0 (io), F8 GDC1/IO45RSB0 (io), F9 GDC0/IO46RSB0 (io)
part B pins: B1 GAA2/IO95RSB1 (io), C1 GAB2/IO93RSB1 (io), C2 IO94RSB1 (io), D1 GAC2/IO91RSB1 (io), D2 IO92RSB1 (io), D3 GFA2/IO80RSB1 (io), E1 GFB0/IO83RSB1 (io), E2 GFB1/IO84RSB1 (io), E3 GFA1/IO81RSB1 (io), G1 GEA0/IO69RSB1 (io), G2 GEC1/IO74RSB1 (io), G3 GEB1/IO72RSB1 (io), G4 IO63RSB1 (io), G5 IO60RSB1 (io), G6 IO54RSB1 (io), G7 GDB2/IO52RSB1 (io), H1 GEA1/IO70RSB1 (io), H2 FF/GEB2/IO67RSB1 (io), H3 IO65RSB1 (io), H4 IO62RSB1 (io), H5 IO59RSB1 (io), H6 IO56RSB1 (io), H7 GDA2/IO51RSB1 (io), J1 GEA2/IO68RSB1 (io), J2 GEC2/IO66RSB1 (io), J3 IO64RSB1 (io), J4 IO61RSB1 (io), J5 IO58RSB1 (io), J6 IO55RSB1 (io)
part C pins: G9 TRST (in), H8 TDI (in), H9 TDO (out), J7 TCK (in), J8 TMS (in)
part D pins: D4 VCC (power), D5 VCCIB0 (power), E4 VCCIB1 (power), E5 VCC (power), E6 VCCIB0 (power), F5 VCCIB1 (power), G8 VJTAG (power), J9 VPUMP (power)
part E pins: C3 GND (power), C6 GND (power), D6 GND (power), F3 GND (power), F4 GND (power), F6 GND (power)
part F pins: F1 VCCPLF (power), F2 VCOMPLF (power)
part A text: BANK 0
part B text: BANK 1